# Altium schematic symbol library PKY_LIB.SchLib: 129 symbols
Pins are listed as number, name and electrical type; pins without a type are passive.

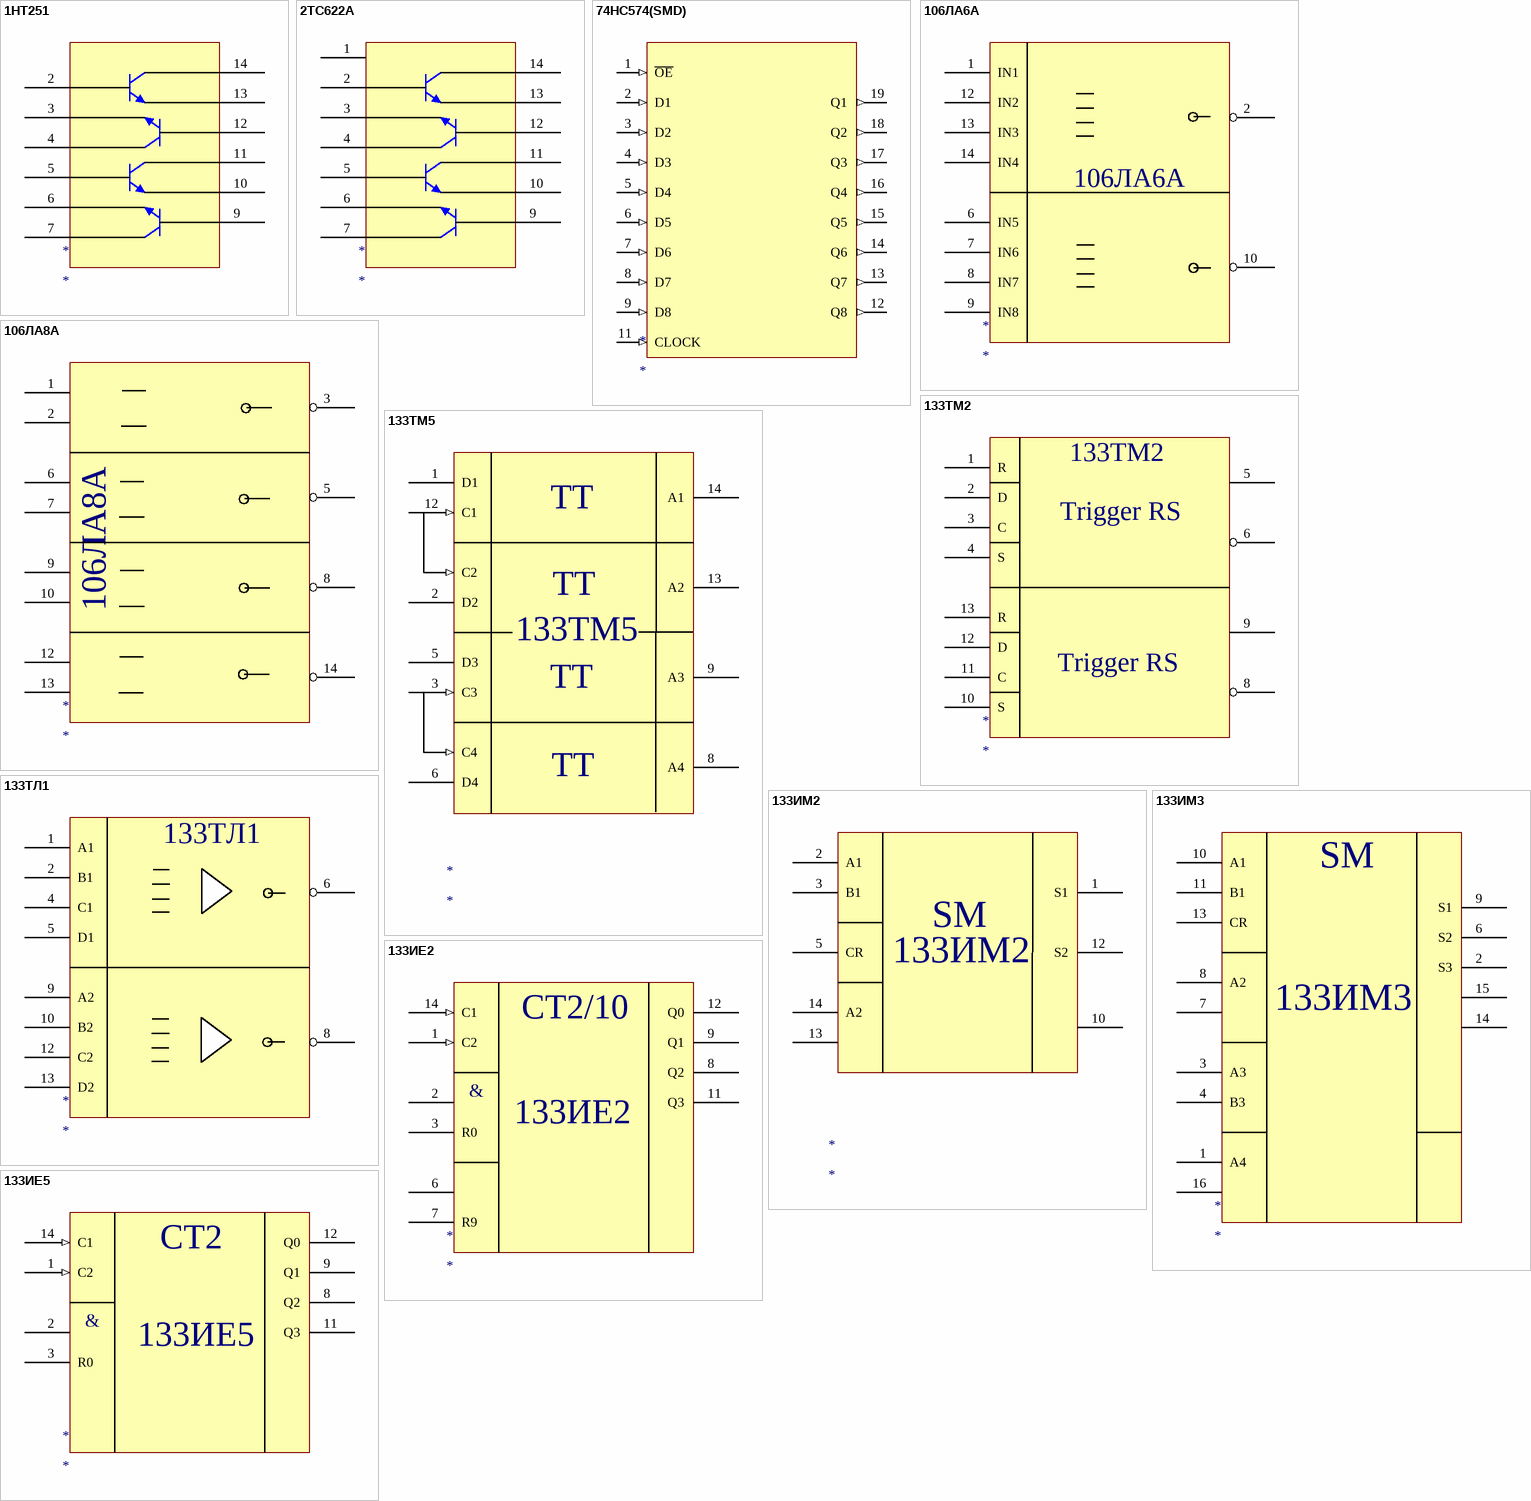
[diagram p0: symbols 1HT251 to 133ИЕ5]

## 1HT251
designator *
footprint SMC-14R
pins: 2, 3, 4, 5, 6, 7, 9, 10, 11, 12, 13, 14

## 2ТС622А
designator *
footprint SMC-14R
pins: 1, 2, 3, 4, 5, 6, 7, 9, 10, 11, 12, 13, 14

## 74HC574(SMD)
designator *
footprint SOP20N (SOP, 20-Leads, Body 12.30x7.50mm, Pitch 1.27mm, IPC Medium Density)
pins: 1 ~{OE} (in), 2 D1 (in), 3 D2 (in), 4 D3 (in), 5 D4 (in), 6 D5 (in), 7 D6 (in), 8 D7 (in), 9 D8 (in), 10 GND (power) hidden to GND, 11 CLOCK (in), 12 Q8 (out), 13 Q7 (out), 14 Q6 (out), 15 Q5 (out), 16 Q4 (out), 17 Q3 (out), 18 Q2 (out), 19 Q1 (out), 20 VCC (power) hidden to VCC

## 106ЛА6A
designator *
footprint SMC-14R
pins: 1 IN1, 2, 4 VCC (power) hidden to VCC, 6 IN5, 7 IN6, 8 IN7, 9 IN8, 10, 11 GND (power) hidden to GND, 12 IN2, 13 IN3, 14 IN4

## 106ЛА8A
designator *
footprint SMC-14R
pins: 1, 2, 3, 4 VCC (power) hidden to VCC, 5, 6, 7, 8, 9, 10, 11 GND (power) hidden to GND, 12, 13, 14

## 133TM2
designator *
footprint SMC-14R
pins: 1 R, 2 D, 3 C, 4 S, 5, 6, 7 GND (power) hidden to GND, 8, 9, 10 S, 11 C, 12 D, 13 R, 14 VCC (power) hidden to VCC
text: Trigger RS

## 133TM5
designator *
footprint SMC-14R
pins: 1 D1, 2 D2, 3 C3 (in), 4 VCC (power) hidden to VCC, 5 D3, 6 D4, 8 A4, 9 A3, 11 GND (power) hidden to GND, 12 C1 (in), 13 A2, 14 A1, ?1 C2 (in), ?2 C4 (in)
text: TT

## 133TЛ1
designator *
footprint SMC-14R
pins: 1 A1, 2 B1, 4 C1, 5 D1, 6, 8, 9 A2, 10 B2, 12 C2, 13 D2

## 133ИM2
designator *
footprint SMC-14R
pins: 1 S1, 2 A1, 3 B1, 4 VCC (power) hidden to VCC, 5 CR, 10 CRP, 11 GND (power) hidden to GND, 12 S2, 13 B2, 14 A2
text: SM

## 133ИM3
designator *
footprint SMC-16R
pins: 1 A4, 2 S3, 3 A3, 4 B3, 5 VCC (power) hidden to VCC, 6 S2, 7 B2, 8 A2, 9 S1, 10 A1, 11 B1, 12 GND (power) hidden to GND, 13 CR, 14 CRP, 15 S4, 16 B4
text: SM

## 133ИЕ2
designator *
footprint SMC-14R
pins: 1 C2 (in), 2  , 3 R0, 5 VCC (power) hidden to VCC, 6  , 7 R9, 8 Q2, 9 Q1, 10 GND (power) hidden to GND, 11 Q3, 12 Q0, 14 C1 (in)
text: CT2/10; &

## 133ИЕ5
designator *
footprint SMC-14R
pins: 1 C2 (in), 2  , 3 R0, 5 VCC (power) hidden to VCC, 8 Q2, 9 Q1, 10 GND (power) hidden to GND, 11 Q3, 12 Q0, 14 C1 (in)
text: CT2; &

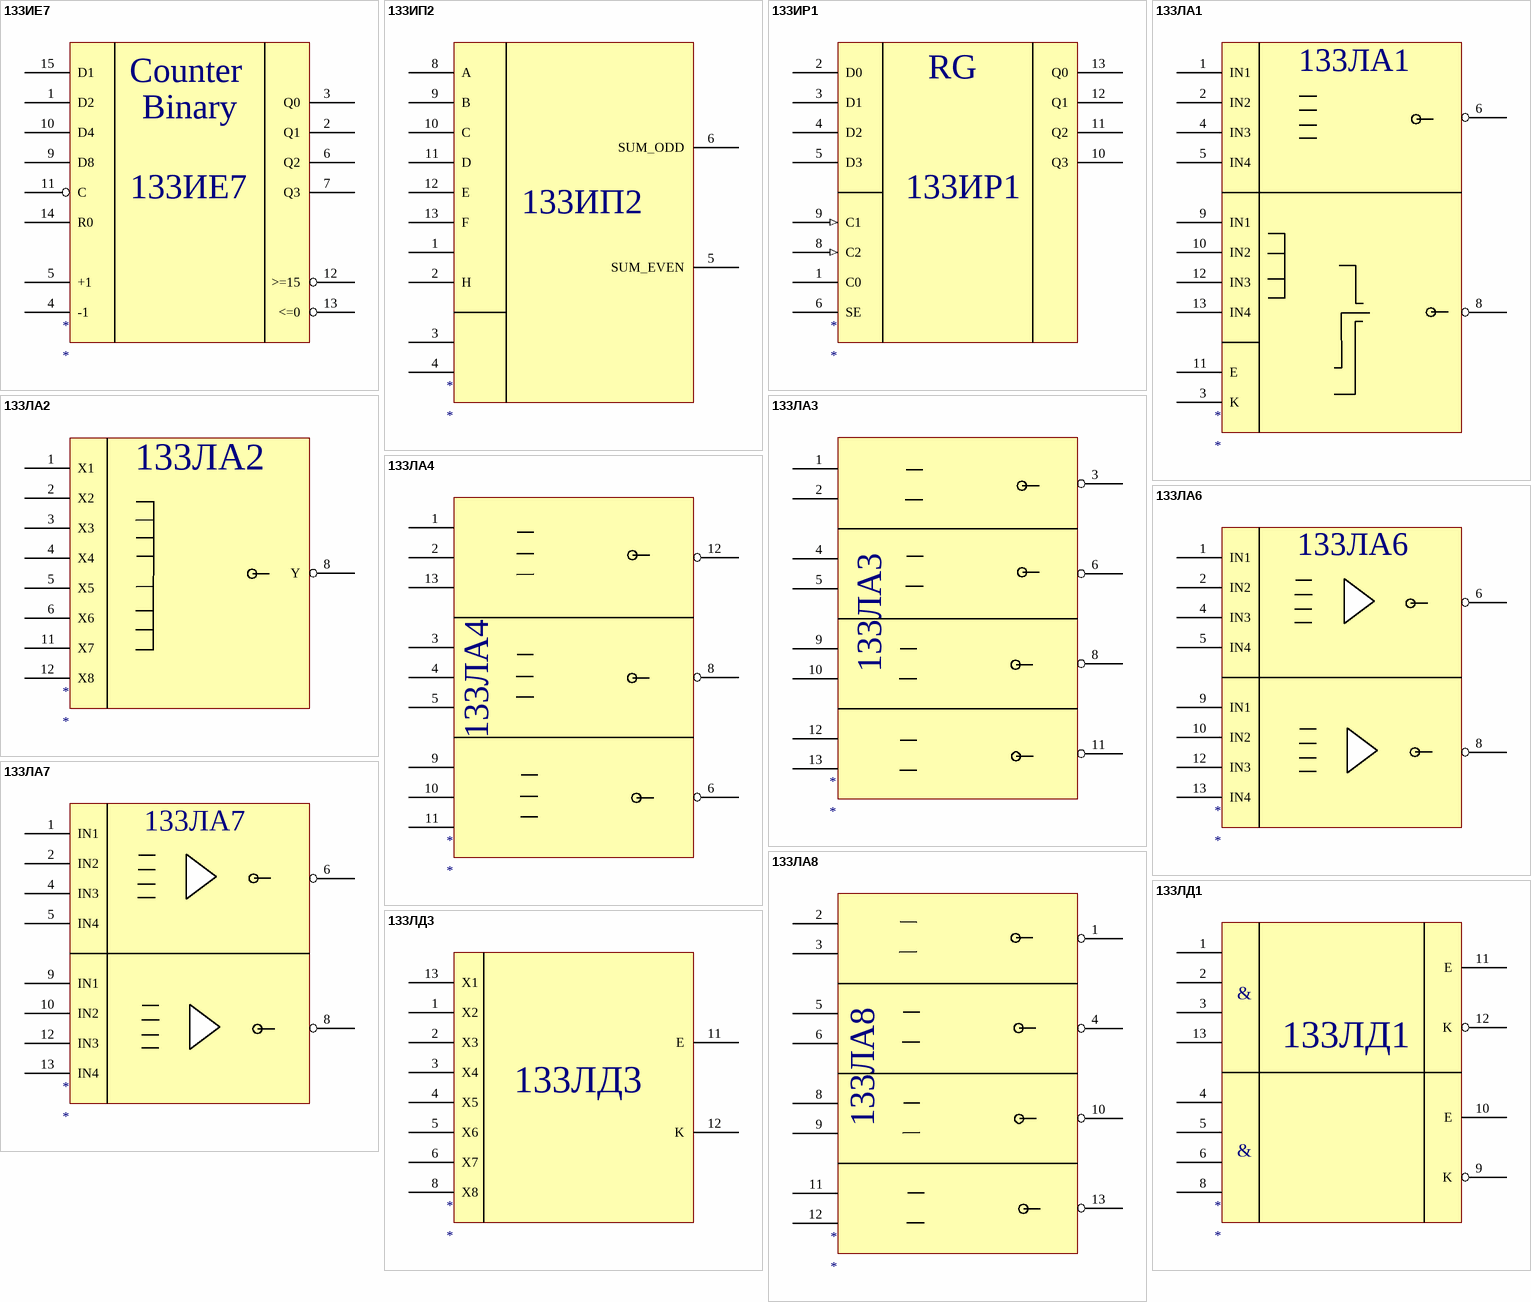
[diagram p1: symbols 133ИЕ7 to 133ЛД3]

## 133ИЕ7
designator *
footprint SMC-16R
pins: 1 D2, 2 Q1, 3 Q0, 4 -1, 5 +1, 6 Q2, 7 Q3, 8 GND (power) hidden to GND, 9 D8, 10 D4, 11 C, 12 >=15, 13 <=0, 14 R0, 15 D1, 16 VCC (power) hidden to VCC
text: Counter; Binary

## 133ИП2
designator *
footprint SMC-14R
pins: 1 G, 2 H (oc), 3 EVEN, 4 ODD, 5 SUM_EVEN, 6 SUM_ODD, 7 GND (power) hidden to GND, 8 A, 9 B, 10 C, 11 D, 12 E, 13 F, 14 VCC (power) hidden to VCC

## 133ИР1
designator *
footprint SMC-14R
pins: 1 C0, 2 D0, 3 D1, 4 D2, 5 D3, 6 SE, 7 GND (power) hidden to GND, 8 C2 (in), 9 C1 (in), 10 Q3, 11 Q2, 12 Q1, 13 Q0, 14 VCC (power) hidden to VCC
text: RG

## 133ЛA1
designator *
footprint SMC-14R
pins: 1 IN1, 2 IN2, 3 K, 4 IN3, 5 IN4, 6, 7 GND (power) hidden to GND, 8, 9 IN1, 10 IN2, 11 E, 12 IN3, 13 IN4, 14 VCC (power) hidden to VCC

## 133ЛA2
designator *
footprint SMC-14R
pins: 1 X1, 2 X2, 3 X3, 4 X4, 5 X5, 6 X6, 7 GND (power) hidden to GND, 8 Y, 11 X7, 12 X8, 14 VCC (power) hidden to VCC

## 133ЛA3
designator *
footprint SMC-14R
pins: 1, 2, 3, 4, 5, 6, 7 GND (power) hidden to GND, 8, 9, 10, 11, 12, 13, 14 VCC (power) hidden to VCC

## 133ЛA4
designator *
footprint SMC-14R
pins: 1 (oc), 2, 3, 4, 5, 6, 7 GND (power) hidden to GND, 8, 9, 10, 11, 12, 13, 14 VCC (power) hidden to VCC

## 133ЛA6
designator *
footprint SMC-14R
pins: 1 IN1, 2 IN2, 4 IN3, 5 IN4, 6, 7 GND (power) hidden to GND, 8, 9 IN1, 10 IN2, 12 IN3, 13 IN4, 14 VCC (power) hidden to VCC

## 133ЛA7
designator *
footprint SMC-14R
pins: 1 IN1, 2 IN2, 4 IN3, 5 IN4, 6, 7 GND (power) hidden to GND, 8, 9 IN1, 10 IN2, 12 IN3, 13 IN4, 14 VCC (power) hidden to VCC

## 133ЛA8
designator *
footprint SMC-14R
pins: 1, 2, 3, 4, 5, 6, 7 GND (power) hidden to GND, 8, 9, 10, 11, 12, 13, 14 VCC (power) hidden to VCC

## 133ЛД1
designator *
footprint SMC-14R
pins: 1  , 2  , 3  , 4  , 5  , 6  , 7 GND (power) hidden to GND, 8  , 9 K, 10 E, 11 E, 12 K, 13  , 14 VCC (power) hidden to VCC
text: &

## 133ЛД3
designator *
footprint SMC-14R
pins: 1 X2, 2 X3, 3 X4, 4 X5, 5 X6, 6 X7, 7 GND hidden to GND, 8 X8, 11 E, 12 K, 13 X1, 14 VCC hidden to VCC

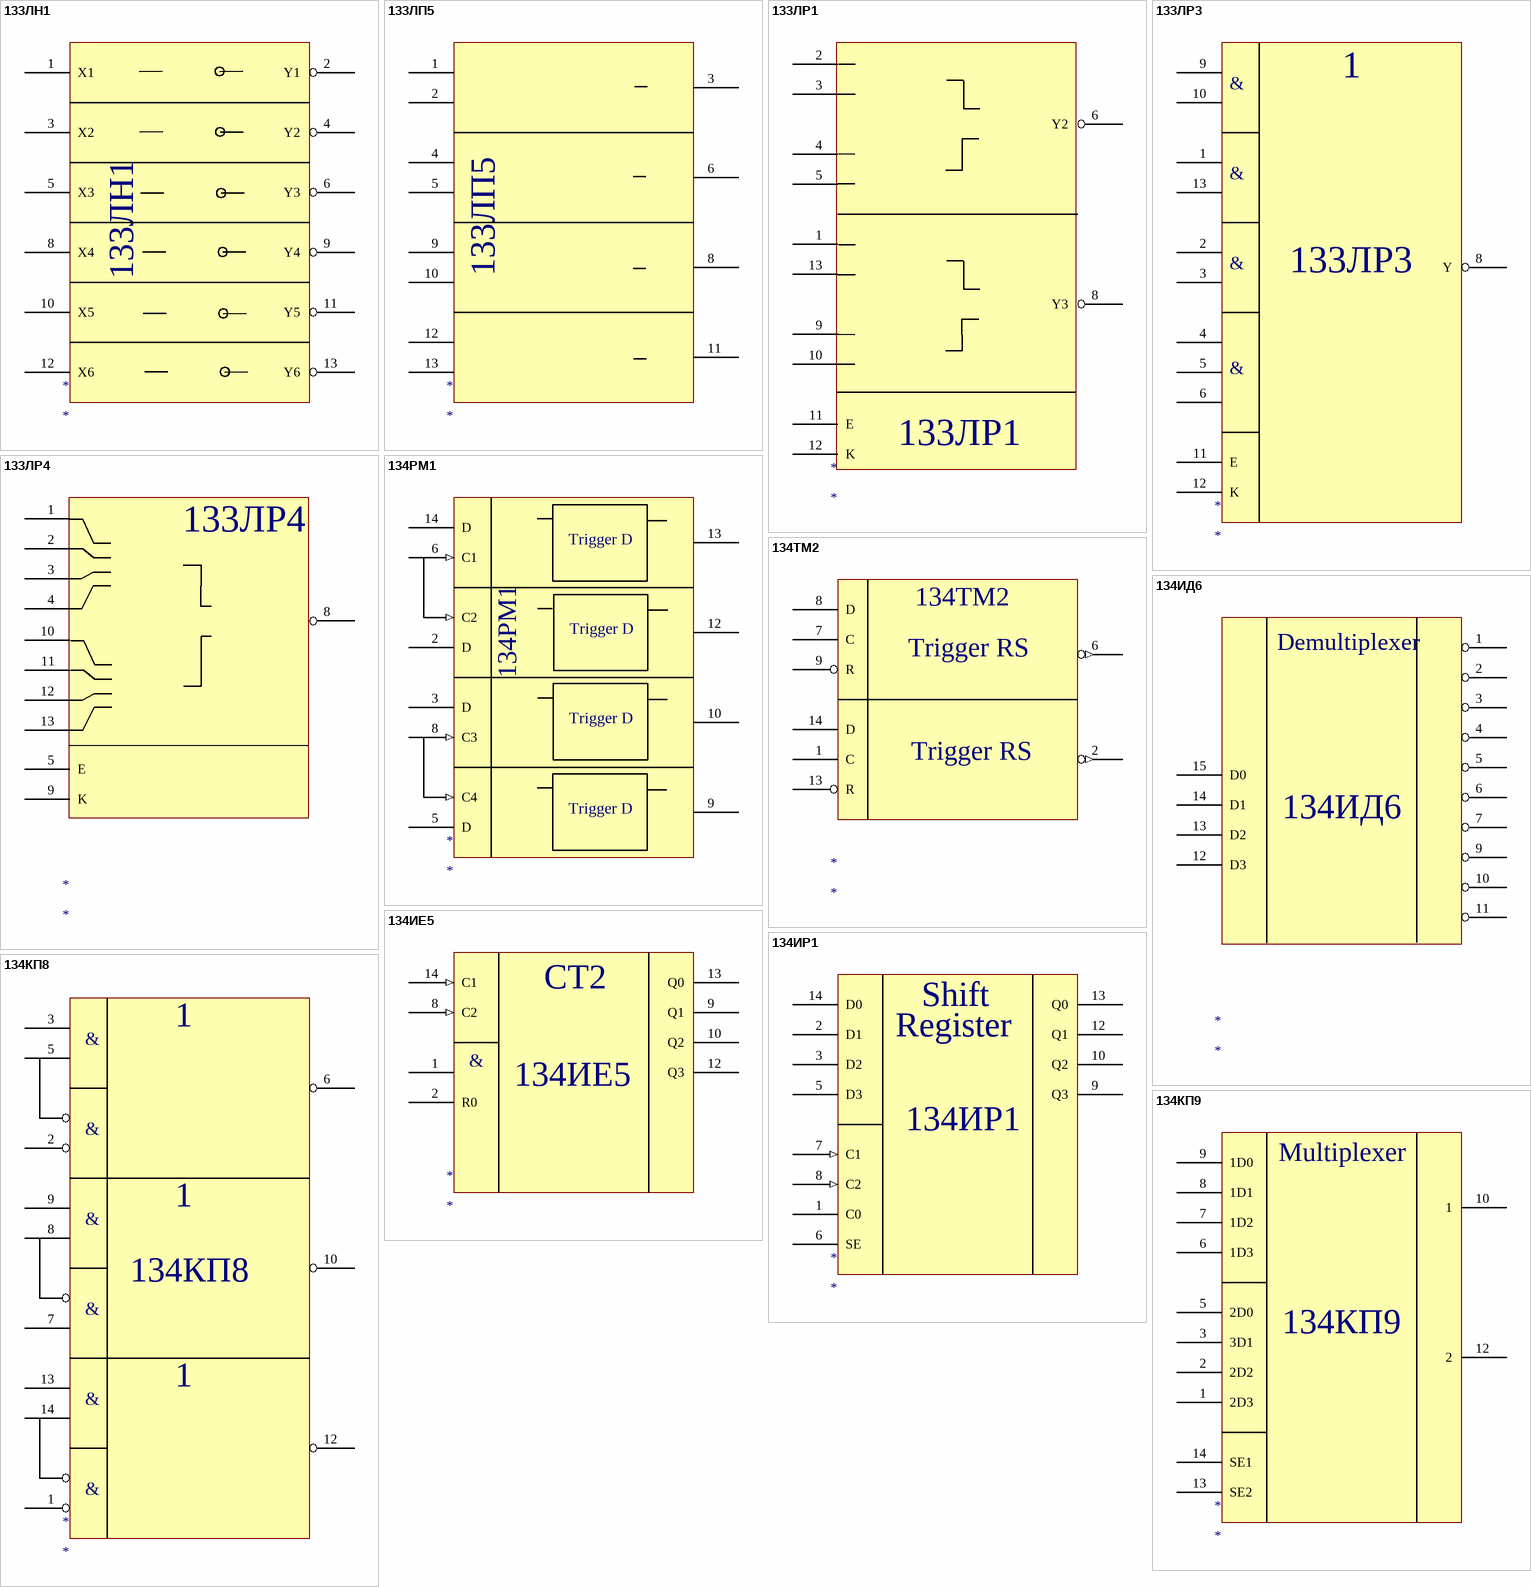
[diagram p2: symbols 133ЛН1 to 134КП9]

## 133ЛН1
designator *
footprint SMC-14R
pins: 1 X1, 2 Y1, 3 X2, 4 Y2, 5 X3, 6 Y3, 7 GND (power) hidden to GND, 8 X4, 9 Y4, 10 X5, 11 Y5, 12 X6, 13 Y6, 14 VCC hidden to VCC

## 133ЛП5
designator *
footprint SMC-14R
pins: 1, 2, 3, 4, 5, 6, 7 GND (power) hidden to GND, 8, 9, 10, 11, 12, 13, 14 VCC (power) hidden to VCC

## 133ЛР1
designator *
footprint SMC-14R
pins: 1, 2, 3, 4, 5, 6 Y2, 7 GND (power) hidden to GND, 8 Y3, 9, 10, 11 E, 12 K, 13, 14 VCC (power) hidden to VCC

## 133ЛР3
designator *
footprint SMC-14R
pins: 1  , 2  , 3  , 4  , 5  , 6  , 7 GND (power) hidden to GND, 8 Y, 9  , 10  , 11 E, 12 K, 13  , 14 VCC (power) hidden to VCC
text: &

## 133ЛР4
designator *
footprint SMC-14R
pins: 1  , 2  , 3  , 4  , 5 E, 7 GND (power) hidden to GND, 8, 9 K, 10  , 11  , 12  , 13  , 14 VCC (power) hidden to VCC

## 134PM1
designator *
footprint SMC-14R
pins: 2 D, 3 D, 4 VCC (power) hidden to VCC, 5 D, 6 C1 (in), 8 C3 (in), 9, 10, 11 GND (power) hidden to GND, 12, 13, 14 D, ?1 C2 (in), ?2 C4 (in)
text: Trigger D

## 134TM2
designator *
footprint SMC-14R
pins: 1 C, 2 (out), 6 (out), 7 C, 8 D, 9 R, 13 R, 14 D
text: Trigger RS

## 134ИД6
designator *
footprint SMC-16R
pins: 1 Q0, 2 Q1, 3 Q2, 4 Q3, 5 Q4, 6 Q5, 7 Q6, 8 GND hidden to GND, 9 Q7, 10 Q8, 11 Q9, 12 D3, 13 D2, 14 D1, 15 D0, 16 VCC (power) hidden to VCC
text: Demultiplexer

## 134ИЕ5
designator *
footprint SMC-14R
pins: 1, 2 R0, 4 VCC (power) hidden to VCC, 8 C2 (in), 9 Q1, 10 Q2, 11 GND (power) hidden to GND, 12 Q3, 13 Q0, 14 C1 (in)
text: CT2; &

## 134ИР1
designator *
footprint SMC-14R
pins: 1 C0, 2 D1, 3 D2, 4 VCC (power) hidden to VCC, 5 D3, 6 SE, 7 C1 (in), 8 C2 (in), 9 Q3, 10 Q2, 11 GND (power) hidden to GND, 12 Q1, 13 Q0, 14 D0
text: Shift; Register

## 134КП8
designator *
footprint SMC-14R
pins: 1  , 2  , 3, 4 VCC (power) hidden to VCC, 5, 6, 7  , 8  , 9  , 10, 11 GND (power) hidden to GND, 12, 13  , 14  , ?1, ?2  , ?3  
text: &

## 134КП9
designator *
footprint SMC-14R
pins: 1 2D3, 2 2D2, 3 3D1, 4 VCC (power) hidden to VCC, 5 2D0, 6 1D3, 7 1D2, 8 1D1, 9 1D0, 10 1, 11 GND (power) hidden to GND, 12 2, 13 SE2, 14 SE1
text: Multiplexer

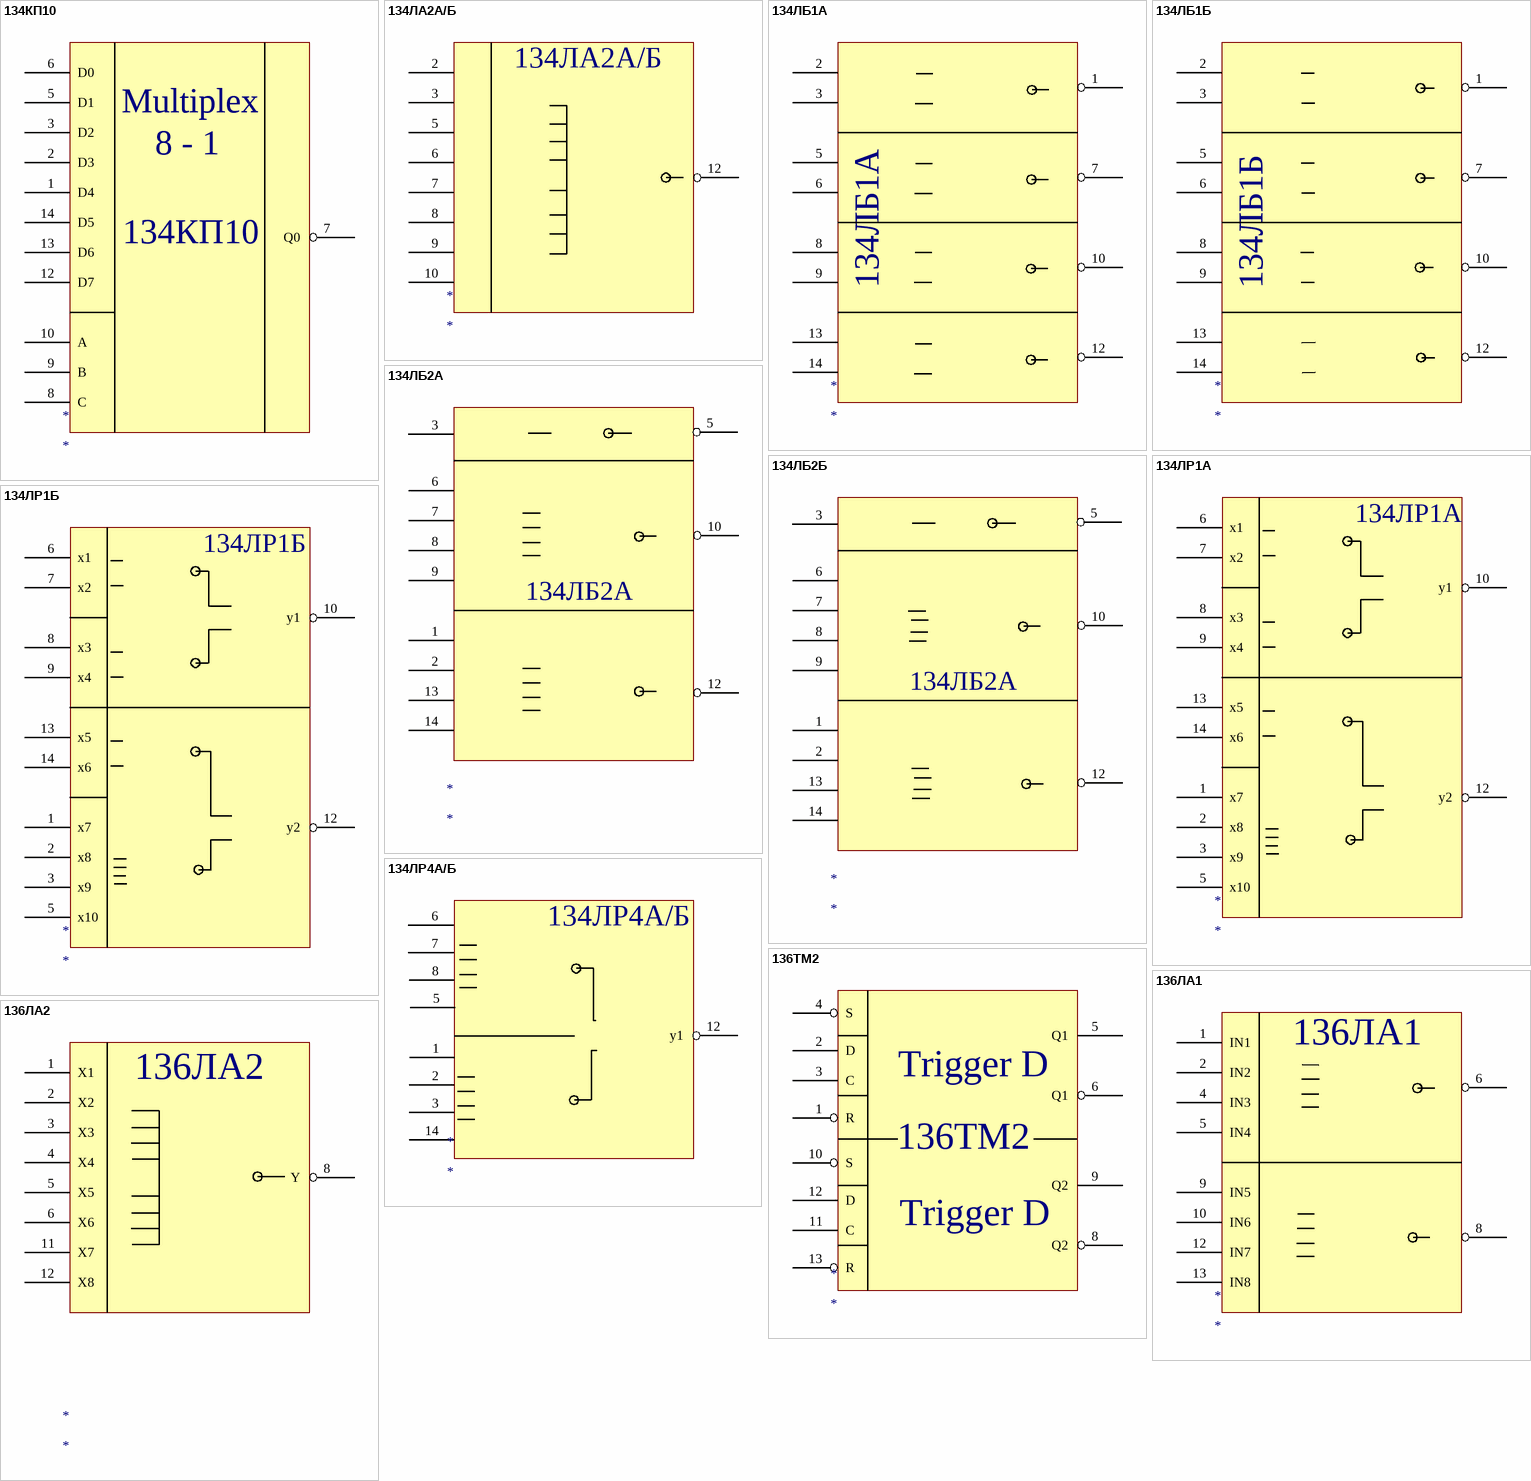
[diagram p3: symbols 134КП10 to 136ЛА2]

## 134КП10
designator *
footprint SMC-14R
pins: 1 D4, 2 D3, 3 D2, 4 VCC (power) hidden to VCC, 5 D1, 6 D0, 7 Q0, 8 C, 9 B, 10 A, 11 GND (power) hidden to GND, 12 D7, 13 D6, 14 D5
text: Multiplex; 8 - 1

## 134ЛА2А/Б
designator *
footprint SMC-14R
pins: 2  , 3  , 4 VCC (power) hidden to VCC, 5  , 6  , 7  , 8  , 9  , 10  , 11 GND (power) hidden to GND, 12  

## 134ЛБ1А
designator *
footprint SMC-14R
pins: 1, 2, 3, 4 VCC (power) hidden to VCC, 5, 6, 7, 8, 9, 10, 11 GND (power) hidden to GND, 12, 13, 14

## 134ЛБ1Б
designator *
footprint SMC-14R
pins: 1, 2, 3, 4 VCC (power) hidden to VCC, 5, 6, 7, 8, 9, 10, 11 GND (power) hidden to GND, 12, 13, 14

## 134ЛБ2А
designator *
footprint SMC-14R
pins: 1, 2, 3, 4 VCC (power) hidden to VCC, 5, 6, 7, 8, 9, 10, 11 GND (power) hidden to GND, 12, 13, 14

## 134ЛБ2Б
designator *
footprint SMC-14R
pins: 1, 2, 3, 4 VCC (power) hidden to VCC, 5, 6, 7, 8, 9, 10, 11 GND (power) hidden to GND, 12, 13, 14
text: 134ЛБ2А

## 134ЛР1A
designator *
footprint SMC-14R
pins: 1 x7, 2 x8, 3 x9, 4 VCC (power) hidden to VCC, 5 x10, 6 x1, 7 x2, 8 x3, 9 x4, 10 y1, 11 GND (power) hidden to GND, 12 y2, 13 x5, 14 x6

## 134ЛР1Б
designator *
footprint SMC-14R
pins: 1 x7, 2 x8, 3 x9, 4 VCC (power) hidden to VCC, 5 x10, 6 x1, 7 x2, 8 x3, 9 x4, 10 y1, 11 GND (power) hidden to GND, 12 y2, 13 x5, 14 x6

## 134ЛР4A/Б
designator *
footprint SMC-14R
pins: 1  , 2  , 3  , 4 VCC (power) hidden to VCC, 5  , 6  , 7  , 8  , 11 GND (power) hidden to GND, 12 y1, 14  

## 136TM2
designator *
footprint SMC-14R
pins: 1 R, 2 D, 3 C, 4 S, 5 Q1, 6 Q1, 7 GND (power) hidden to GND, 8 Q2, 9 Q2, 10 S, 11 C, 12 D, 13 R, 14 VCC hidden to VCC
text: Trigger D

## 136ЛА1
designator *
footprint SMC-14R
pins: 1 IN1, 2 IN2, 4 IN3, 5 IN4, 6, 7 GND (power) hidden to GND, 8, 9 IN5, 10 IN6, 12 IN7, 13 IN8, 14 VCC (power) hidden to VCC

## 136ЛА2
designator *
footprint SMC-14R
pins: 1 X1, 2 X2, 3 X3, 4 X4, 5 X5, 6 X6, 7 GND (power) hidden to GND, 8 Y, 11 X7, 12 X8, 14 VCC hidden to VCC

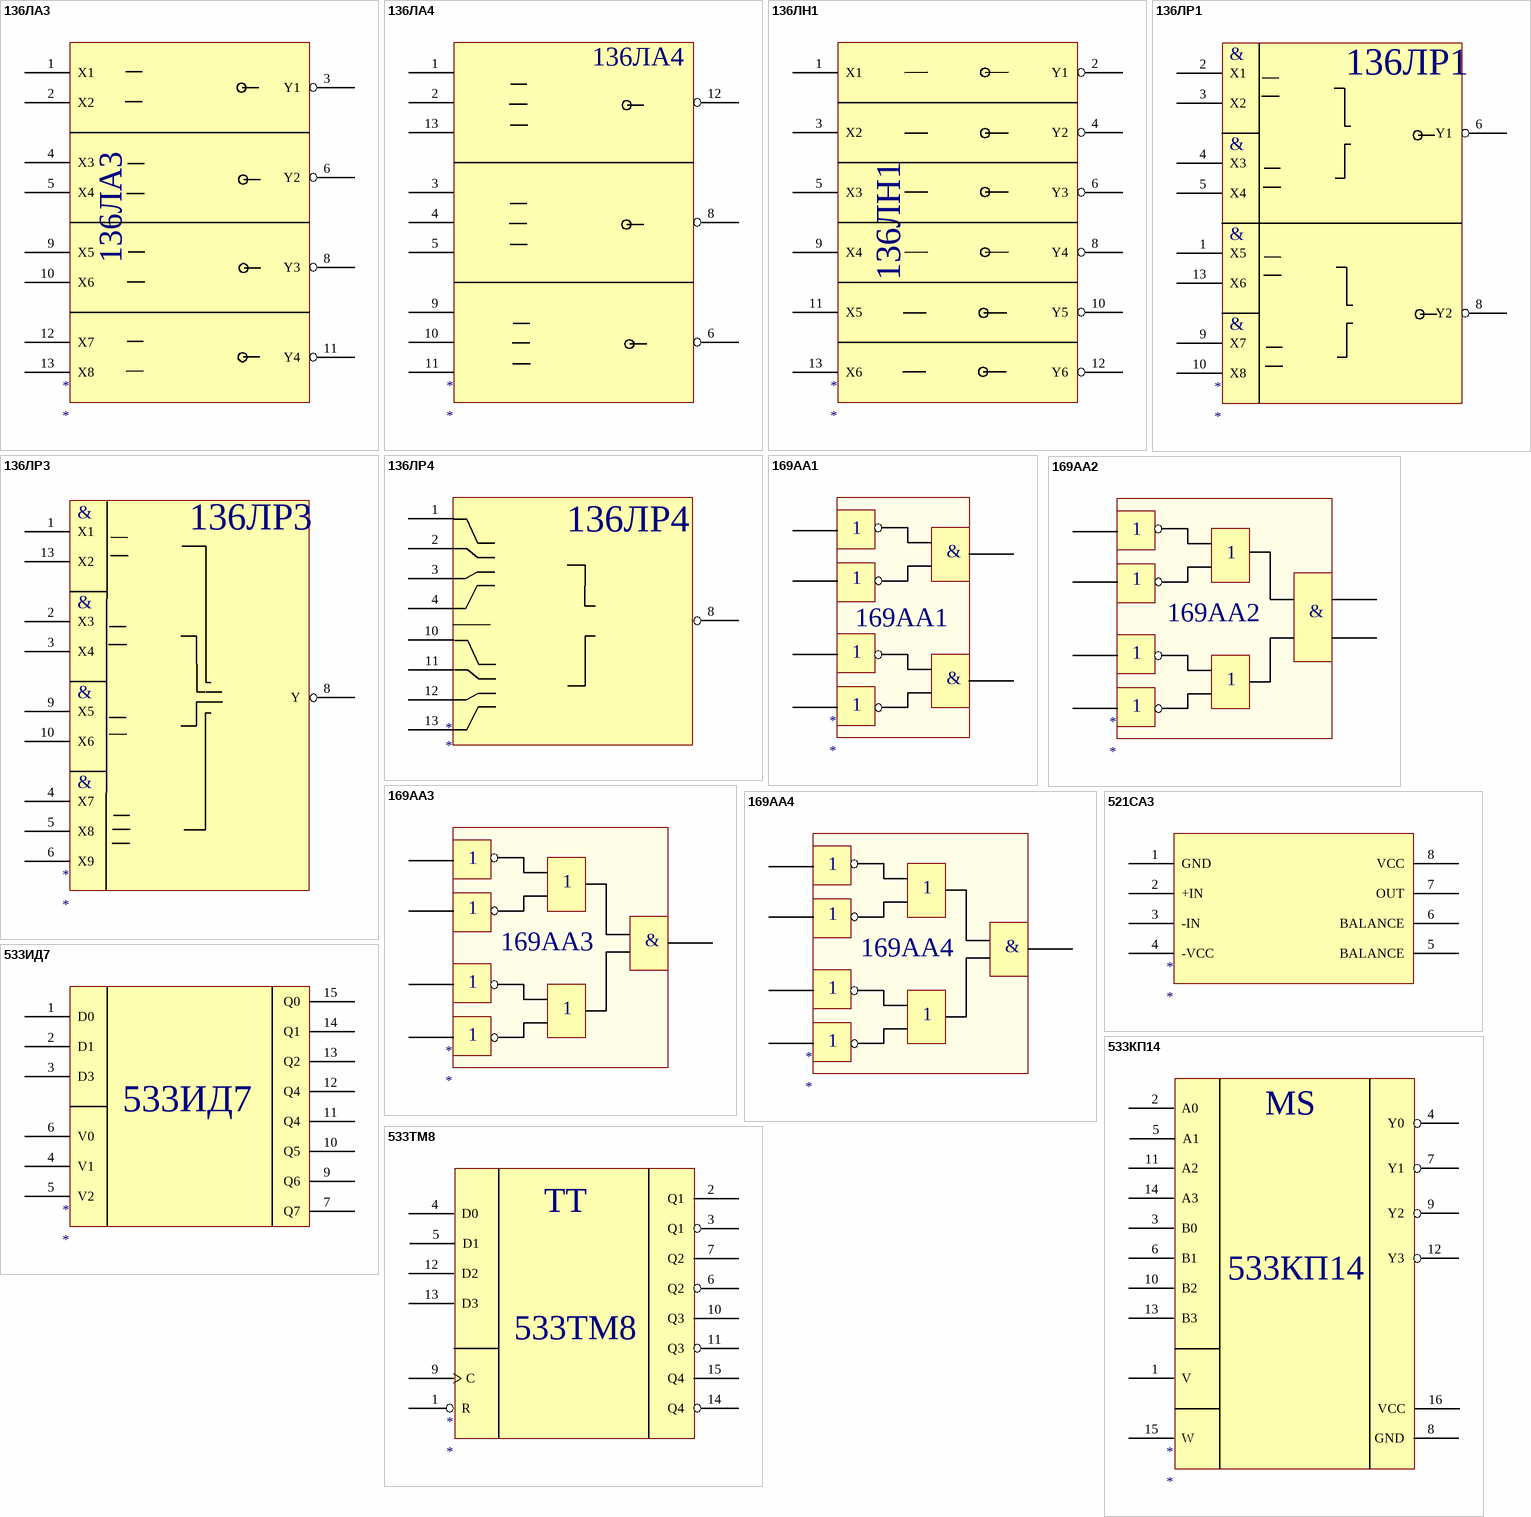
[diagram p4: symbols 136ЛА3 to 533ТМ8]

## 136ЛА3
designator *
footprint SMC-14R
pins: 1 X1, 2 X2, 3 Y1 (oc), 4 X3, 5 X4, 6 Y2, 7 GND (power) hidden to GND, 8 Y3, 9 X5, 10 X6, 11 Y4, 12 X7, 13 X8, 14 VCC (power) hidden to VCC

## 136ЛА4
designator *
footprint SMC-14R
pins: 1 (oc), 2, 3, 4, 5, 6, 7 GND (power) hidden to GND, 8, 9, 10, 11, 12, 13, 14 VCC (power) hidden to VCC

## 136ЛН1
designator *
footprint SMC-14R
pins: 1 X1, 2 Y1 (oc), 3 X2, 4 Y2, 5 X3, 6 Y3, 7 GND (power) hidden to GND, 8 Y4, 9 X4, 10 Y5, 11 X5, 12 Y6, 13 X6, 14 VCC (power) hidden to VCC

## 136ЛР1
designator *
footprint SMC-14R
pins: 1 X5, 2 X1, 3 X2, 4 X3, 5 X4, 6 Y1, 7 GND (power) hidden to GND, 8 Y2, 9 X7, 10 X8, 13 X6, 14 VCC (power) hidden to VCC
text: &

## 136ЛР3
designator *
footprint SMC-14R
pins: 1 X1, 2 X3, 3 X4, 4 X7, 5 X8, 6 X9, 7 GND (power) hidden to GND, 8 Y, 9 X5, 10 X6, 13 X2, 14 VCC (power) hidden to VCC
text: &

## 136ЛР4
designator *
footprint SMC-14R
pins: 1  , 2  , 3  , 4  , 7 GND (power) hidden to GND, 8, 10  , 11  , 12  , 13  , 14 VCC (power) hidden to VCC

## 169AA1
designator *
pins: 3, 4, 5, 6, 10, 15, ?1, ?2, ?3, ?4
text: 1; &

## 169AA2
designator *
pins: 3, 4, 5, 6, 10, 15, ?1, ?2, ?3, ?4
text: 1; &

## 169AA3
designator *
pins: 3, 4, 5, 6, 10, ?1, ?2, ?3, ?4
text: 1; &

## 169AA4
designator *
pins: 3, 4, 5, 6, 10, ?1, ?2, ?3, ?4
text: 1; &

## 521СА3
designator *
pins: 1 GND, 2 +IN, 3 -IN, 4 -VCC, 5 BALANCE, 6 BALANCE, 7 OUT, 8 VCC

## 533ИД7
designator *
pins: 1 D0, 2 D1, 3 D3, 4 V1, 5 V2, 6 V0, 7 Q7, 9 Q6, 10 Q5, 11 Q4, 12 Q4, 13 Q2, 14 Q1, 15 Q0

## 533КП14
designator *
pins: 1 V, 2 A0, 3 B0, 4 Y0, 5 A1, 6 B1, 7 Y1, 8 GND, 9 Y2, 10 B2, 11 A2, 12 Y3, 13 B3, 14 A3, 15 W, 16 VCC
text: MS

## 533ТМ8
designator *
pins: 1 R, 2 Q1, 3 Q1, 4 D0, 5 D1, 6 Q2, 7 Q2, 9 C, 10 Q3, 11 Q3, 12 D2, 13 D3, 14 Q4, 15 Q4
text: TT

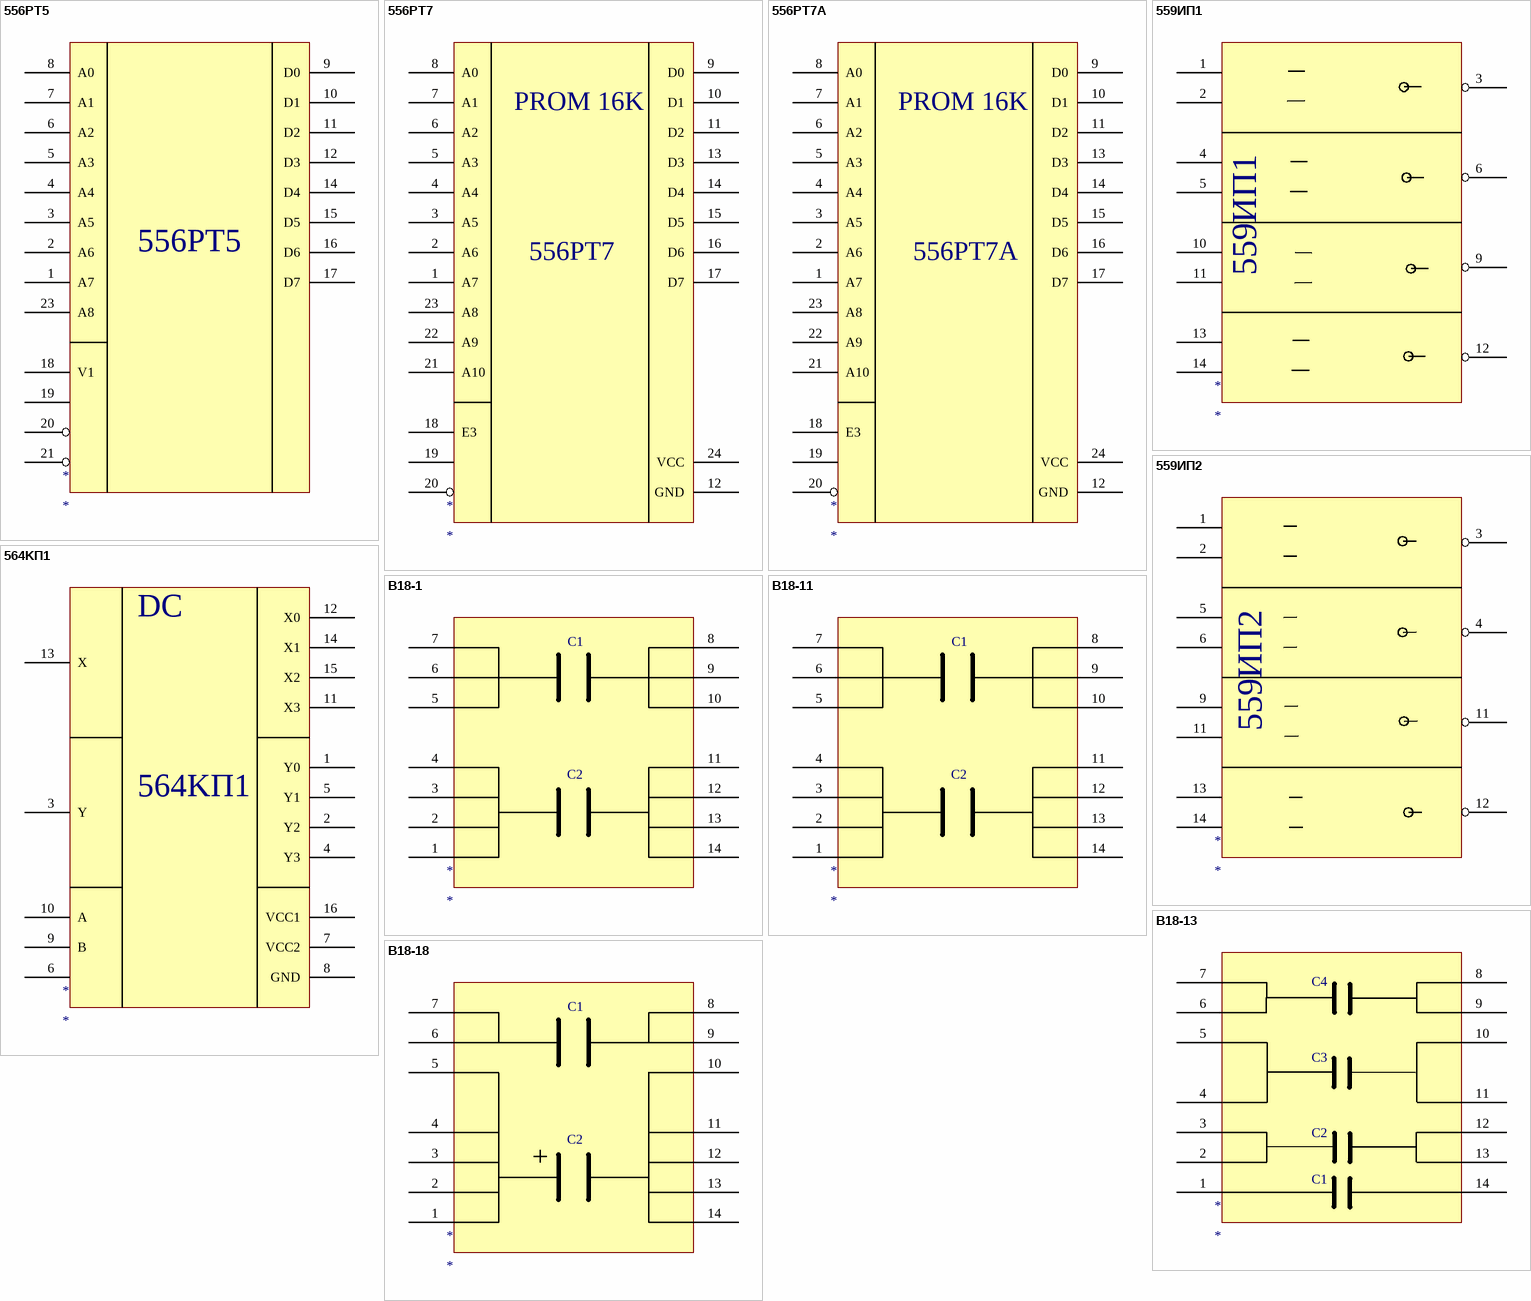
[diagram p5: symbols 556PT5 to B18-18]

## 556PT5
designator *
footprint SMC-24R (SOP, 24-Leads, Body 18.50x11.50mm, Pitch 1.25mm, IPC Medium Density)
pins: 1 A7, 2 A6, 3 A5, 4 A4, 5 A3, 6 A2, 7 A1, 8 A0, 9 D0, 10 D1, 11 D2, 12 D3, 12 GND (power) hidden to GND, 14 D4, 15 D5, 16 D6, 17 D7, 18 V1, 19 V2, 20 V3, 21 V4, 23 A8, 24 VCC (power) hidden to VCC

## 556PT7
designator *
pins: 1 A7, 2 A6, 3 A5, 4 A4, 5 A3, 6 A2, 7 A1, 8 A0, 9 D0, 10 D1, 11 D2, 12 GND, 13 D3, 14 D4, 15 D5, 16 D6, 17 D7, 18 E3, 19 E2, 20 E1, 21 A10, 22 A9, 23 A8, 24 VCC
text: PROM 16K

## 556PT7A
designator *
pins: 1 A7, 2 A6, 3 A5, 4 A4, 5 A3, 6 A2, 7 A1, 8 A0, 9 D0, 10 D1, 11 D2, 12 GND, 13 D3, 14 D4, 15 D5, 16 D6, 17 D7, 18 E3, 19 E2, 20 E1, 21 A10, 22 A9, 23 A8, 24 VCC
text: PROM 16K

## 559ИП1
designator *
footprint SMC-16R
pins: 1, 2, 3, 4, 5, 6, 8 GND (power) hidden to GND, 9, 10, 11, 12, 13, 14, 16 VCC (power) hidden to VCC

## 559ИП2
designator *
footprint SMC-16R
pins: 1, 2, 3, 4, 5, 6, 8 GND (power) hidden to GND, 9, 11, 11, 12, 13, 14, 16 VCC (power) hidden to VCC

## 564KП1
designator *
footprint SMC-16R
pins: 1 Y0, 2 Y2, 3 Y, 4 Y3, 5 Y1, 6 C, 7 VCC2, 8 GND, 9 B, 10 A, 11 X3, 12 X0, 13 X, 14 X1, 15 X2, 16 VCC1
text: DC

## B18-1
designator *
footprint SMC-14R (TU-4X0805)
pins: 1, 2, 3, 4, 5, 6, 7, 8, 9, 10, 11, 12, 13, 14
text: C1; C2

## B18-11
designator *
footprint SMC-14R (TU-4X0805)
pins: 1, 2, 3, 4, 5, 6, 7, 8, 9, 10, 11, 12, 13, 14
text: C1; C2

## B18-13
designator *
footprint SMC-14R
pins: 1, 2, 3, 4, 5, 6, 7, 8, 9, 10, 11, 12, 13, 14
text: C4; C3; C2; C1

## B18-18
designator *
footprint SMC-14R
pins: 1, 2, 3, 4, 5, 6, 7, 8, 9, 10, 11, 12, 13, 14
text: C1; C2

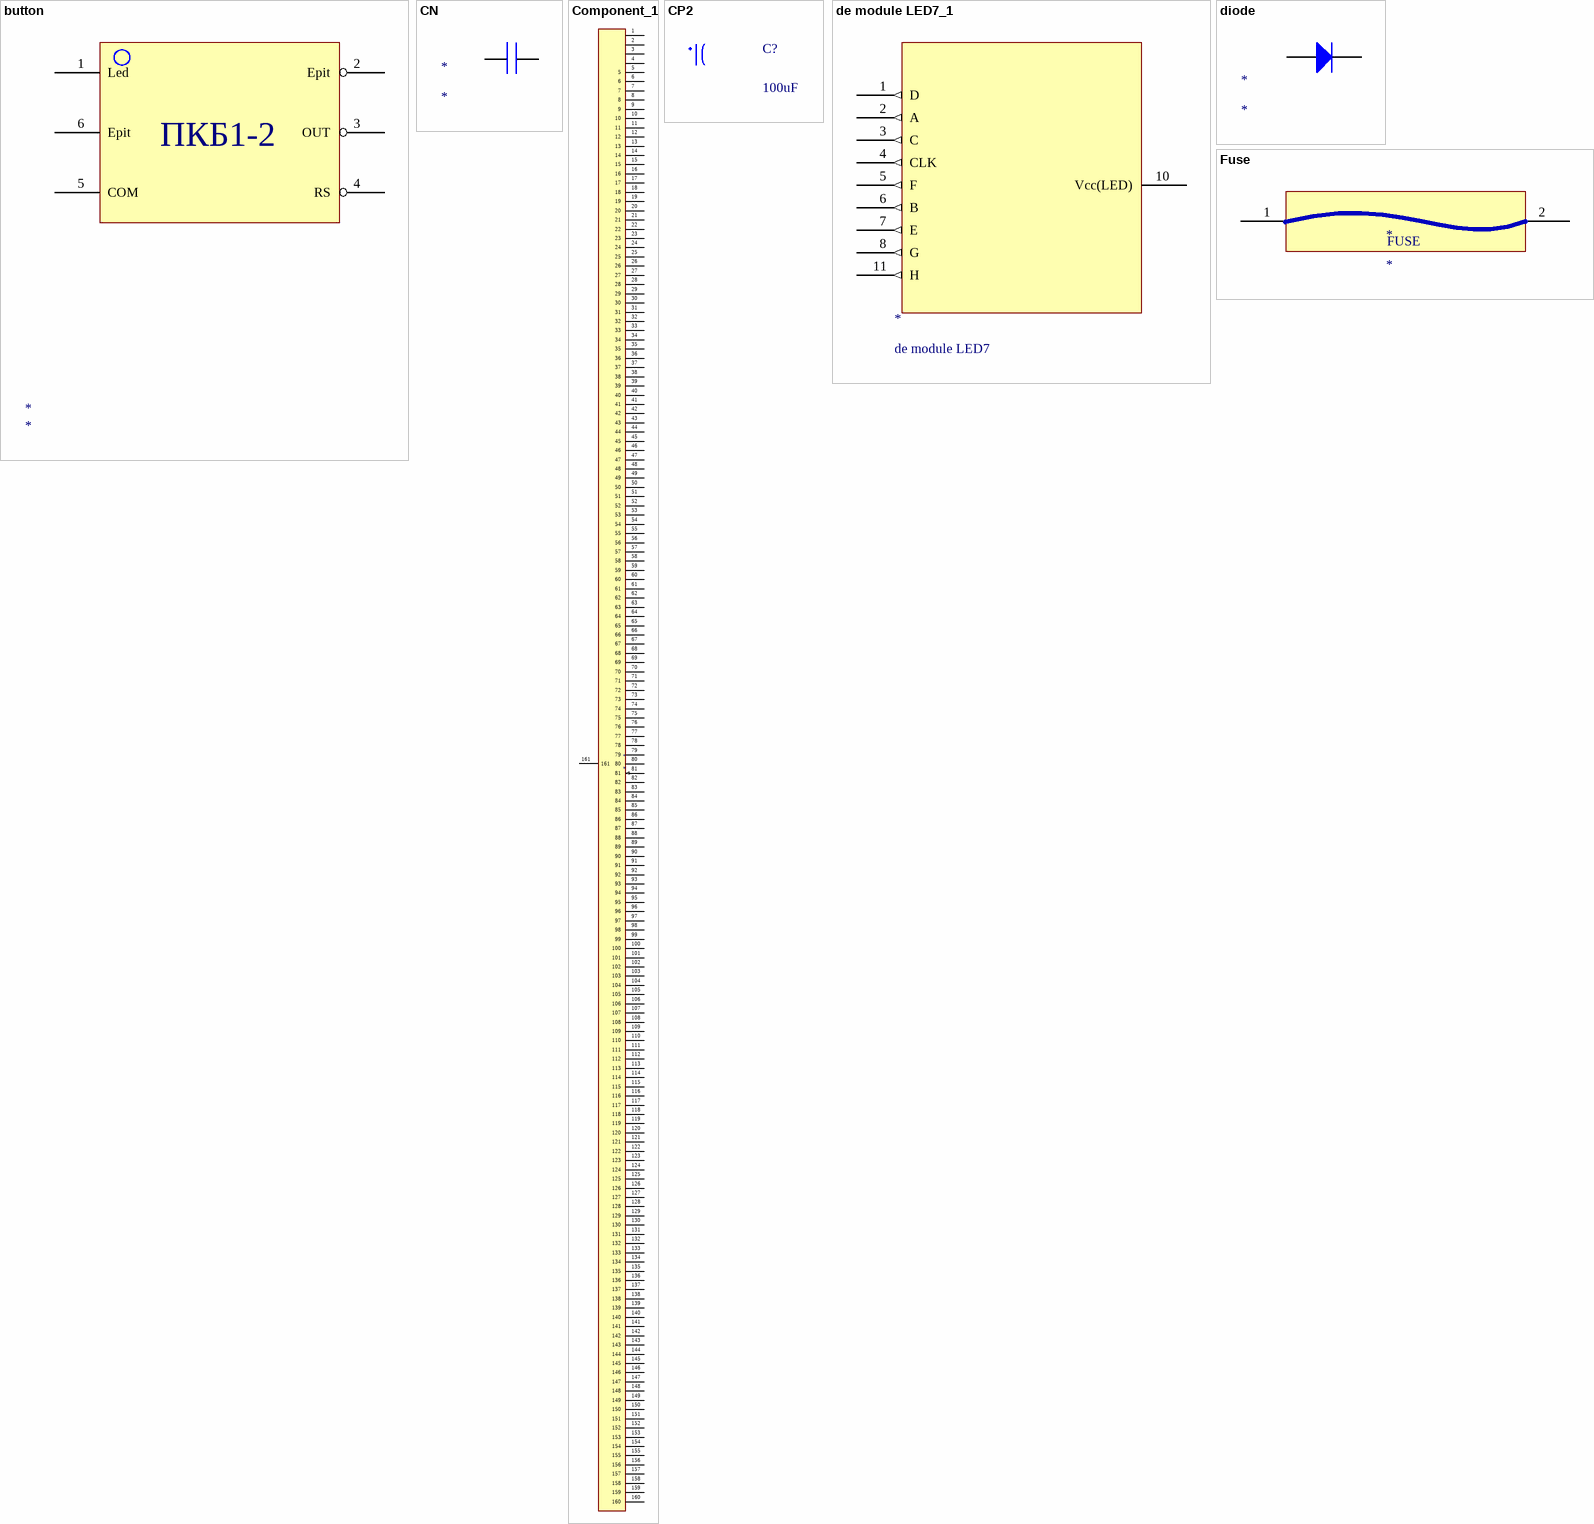
[diagram p6: symbols button to Fuse]

## button
designator *
pins: 1 Led, 2 Epit (oc), 3 OUT, 4 RS, 5 COM, 6 Epit
text: ПКБ1-2

## CN
designator *
pins: 1, 2

## Component_1
designator *
pins: 1  , 2  , 3  , 4  , 5, 6, 7, 8, 9, 10, 11, 12, 13, 14, 15, 16, 17, 18, 19, 20, 21, 22, 23, 24, 25, 26, 27, 28, 29, 30, 31, 32, 33, 34, 35, 36, 37, 38, 39, 40, 41, 42, 43, 44, 45, 46, 47, 48, 49, 50, 51, 52, 53, 54, 55, 56, 57, 58, 59, 60, 61, 62, 63, 64, 65, 66, 67, 68, 69, 70, 71, 72, 73, 74, 75, 76, 77, 78, 79, 80, 81 (in), 82, 83, 84, 85, 86, 87, 88, 89, 90, 91, 92, 93, 94, 95, 96, 97, 98, 99, 100, 101, 102, 103, 104, 105, 106, 107, 108, 109, 110, 111, 112, 113, 114, 115, 116, 117, 118, 119, 120, 121, 122, 123, 124, 125, 126, 127, 128, 129, 130, 131, 132, 133, 134, 135, 136, 137, 138, 139, 140, 141, 142, 143, 144, 145, 146, 147, 148, 149, 150, 151, 152, 153, 154, 155, 156, 157, 158, 159, 160, 161

## CP2
designator C?, comment 100uF
C 47uF/50V , 220uF/16V; Value: 47uF/16 - 50V; Description 1: 470uF/6,3V - 330uF/10V - 220uF/16V; Description 2: 100uF/25V - 35V - 47uF/50V - 22uF/100V; Description 3: 33uF => 47uF/63V - 1uF => 4,7uF/160V; Description 4: 1uF => 2,2uF/250V - 1uF/350V
footprint CP1/2.5 (Tu hoa 33 >100 uF,50V, 220uF/16V,25V)
pins: ?1 (power) hidden to VCC, ?2 (power) hidden to GND "GND"

## de module LED7_1
designator *, comment de module LED7
footprint de module Led7 - duplicate
pins: 1 D (out), 2 A (out), 3 C (out), 4 CLK (out), 5 F (out), 6 B (out), 7 E (out), 8 G (out), 9 VCC (power) hidden to VCC, 10 Vcc(LED) (power), 11 H (out), 12 GND (power) hidden to GND

## diode
designator *
pins: 1, 2

## Fuse
designator *
pins: 1, 2
text: FUSE

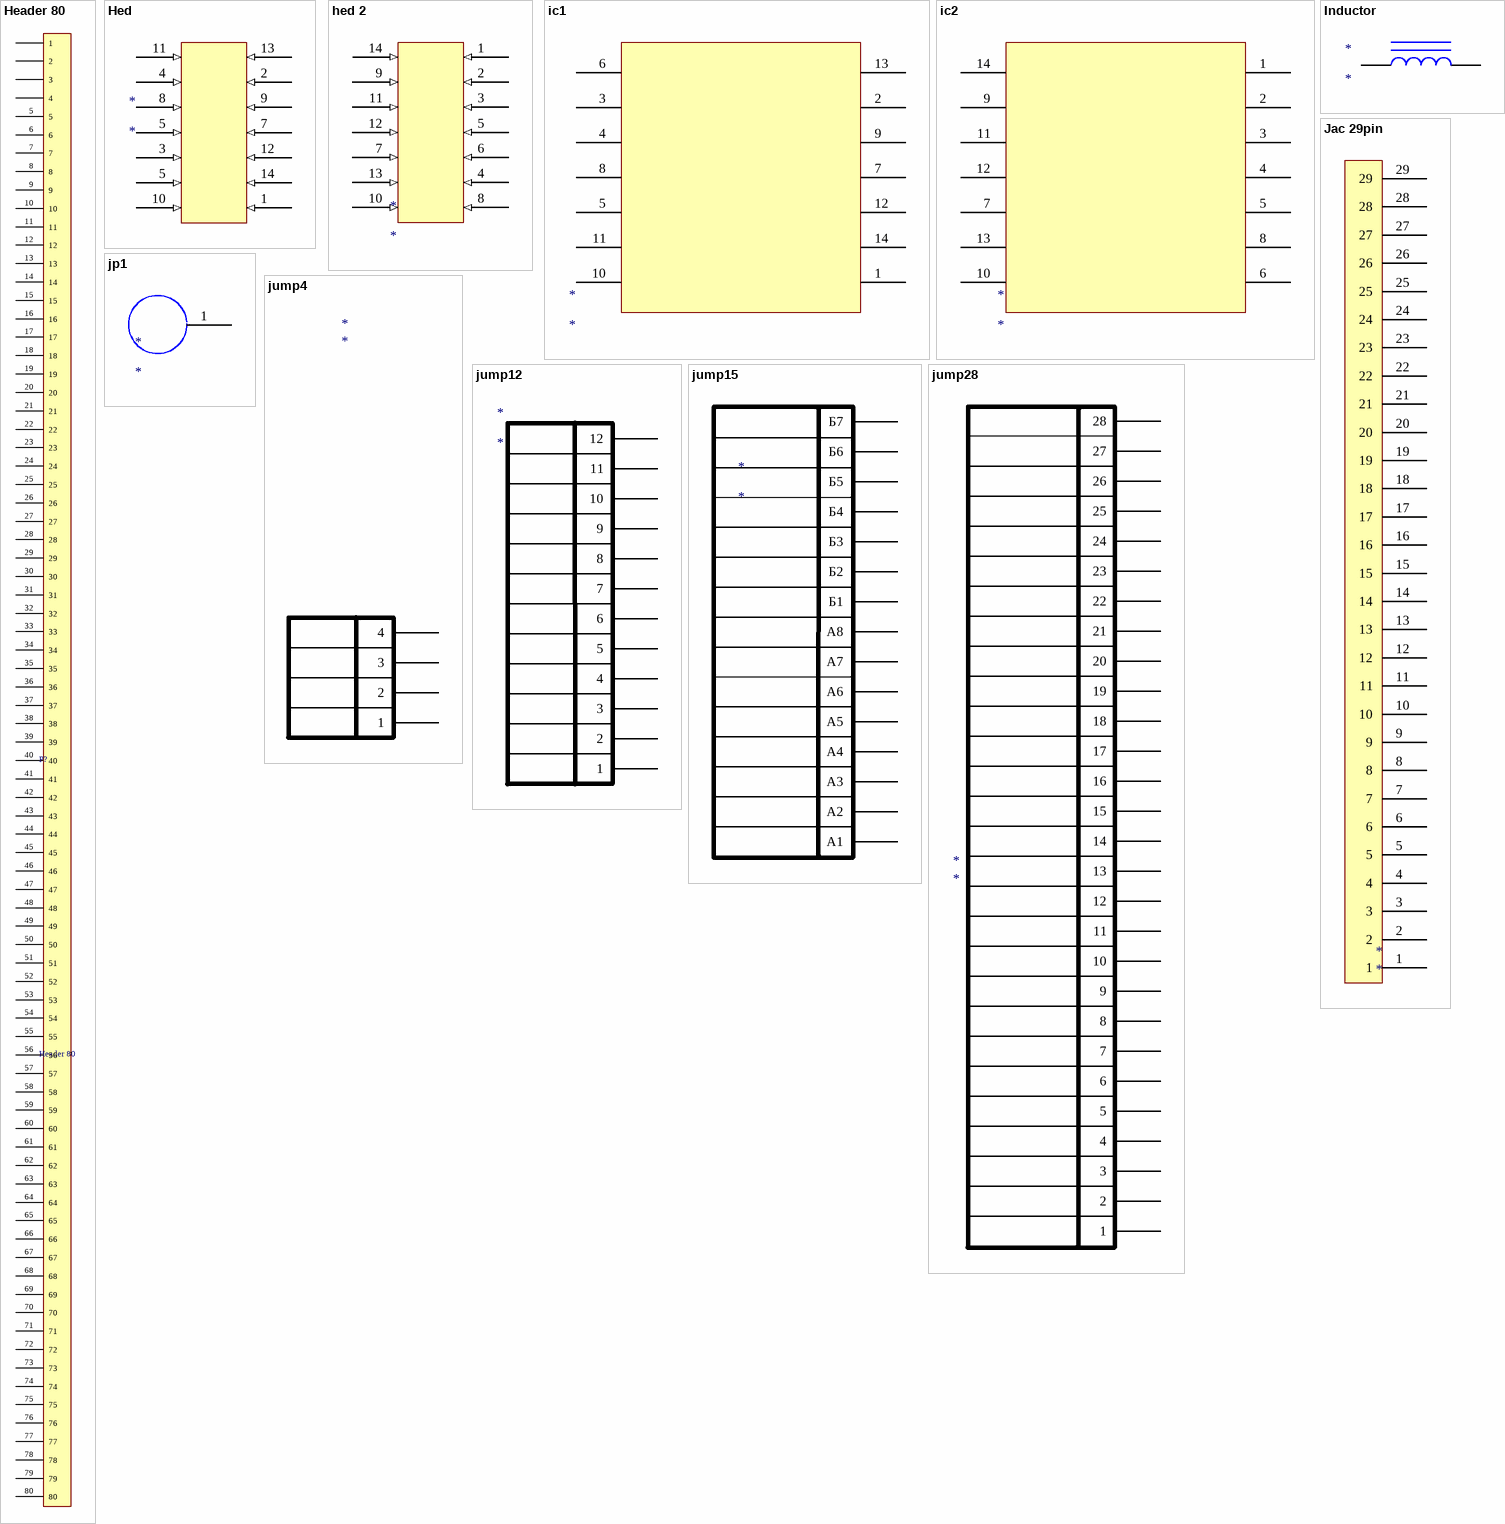
[diagram p7: symbols Header 80 to jump28]

## Header 80
designator P?
Header, 80-Pin; LatestRevisionDate: 17-Jul-2002; LatestRevisionNote: Re-released for DXP Platform.; Publisher: Altium Limited
signal-integrity model Connector
footprint DIP80
pins: 1, 2, 3, 4, 5, 6, 7, 8, 9, 10, 11, 12, 13, 14, 15, 16, 17, 18, 19, 20, 21, 22, 23, 24, 25, 26, 27, 28, 29, 30, 31, 32, 33, 34, 35, 36, 37, 38, 39, 40, 41, 42, 43, 44, 45, 46, 47, 48, 49, 50, 51, 52, 53, 54, 55, 56, 57, 58, 59, 60, 61, 62, 63, 64, 65, 66, 67, 68, 69, 70, 71, 72, 73, 74, 75, 76, 77, 78, 79, 80

## Hed
designator *
pins: 1 (in), 2 (in), 3 (in), 4 (in), 5 (in), 5 (in), 7 (in), 8 (in), 9 (in), 10 (in), 11 (in), 12 (in), 13 (in), 14 (in)

## hed 2
designator *
pins: 1 (in), 2 (in), 3 (in), 4 (in), 5 (in), 6 (in), 7 (in), 8 (in), 9 (in), 10 (in), 11 (in), 12 (in), 13 (in), 14 (in)

## ic1
designator *
pins: 1, 2, 3, 4, 5, 6, 7, 8, 9, 10, 11, 12, 13, 14

## ic2
designator *
pins: 1, 2, 3, 4, 5, 6, 7, 8, 9, 10, 11, 12, 13, 14

## Inductor
designator *
pins: 1, 2

## Jac 29pin
designator *
pins: 1, 2, 3, 4, 5, 6, 7, 8, 9, 10, 11, 12, 13, 14, 15, 16, 17, 18, 19, 20, 21, 22, 23, 24, 25, 26, 27, 28, 29

## jp1
designator *
pins: 1

## jump4
designator *
pins: ?1 1, ?2 2, ?3 3, ?4 4

## jump12
designator *
pins: ?1 1, ?2 2, ?3 3, ?4 4, ?5 5, ?6 6, ?7 7, ?8 8, ?9 9, ?10 10, ?11 11, ?12 12

## jump15
designator *
pins: ?1 A1, ?2 A2, ?3 A3, ?4 A4, ?5 A5, ?6 A6, ?7 A7, ?8 A8, ?9 Б1, ?10 Б2, ?11 Б3, ?12 Б4, ?13 Б5, ?14 Б6, ?15 Б7

## jump28
designator *
pins: ?1 1, ?2 2, ?3 3, ?4 4, ?5 5, ?6 6, ?7 7, ?8 8, ?9 9, ?10 10, ?11 11, ?12 12, ?13 13, ?14 14, ?15 15, ?16 16, ?17 17, ?18 18, ?19 19, ?20 20, ?21 21, ?22 22, ?23 23, ?24 24, ?25 25, ?26 26, ?27 27, ?28 28

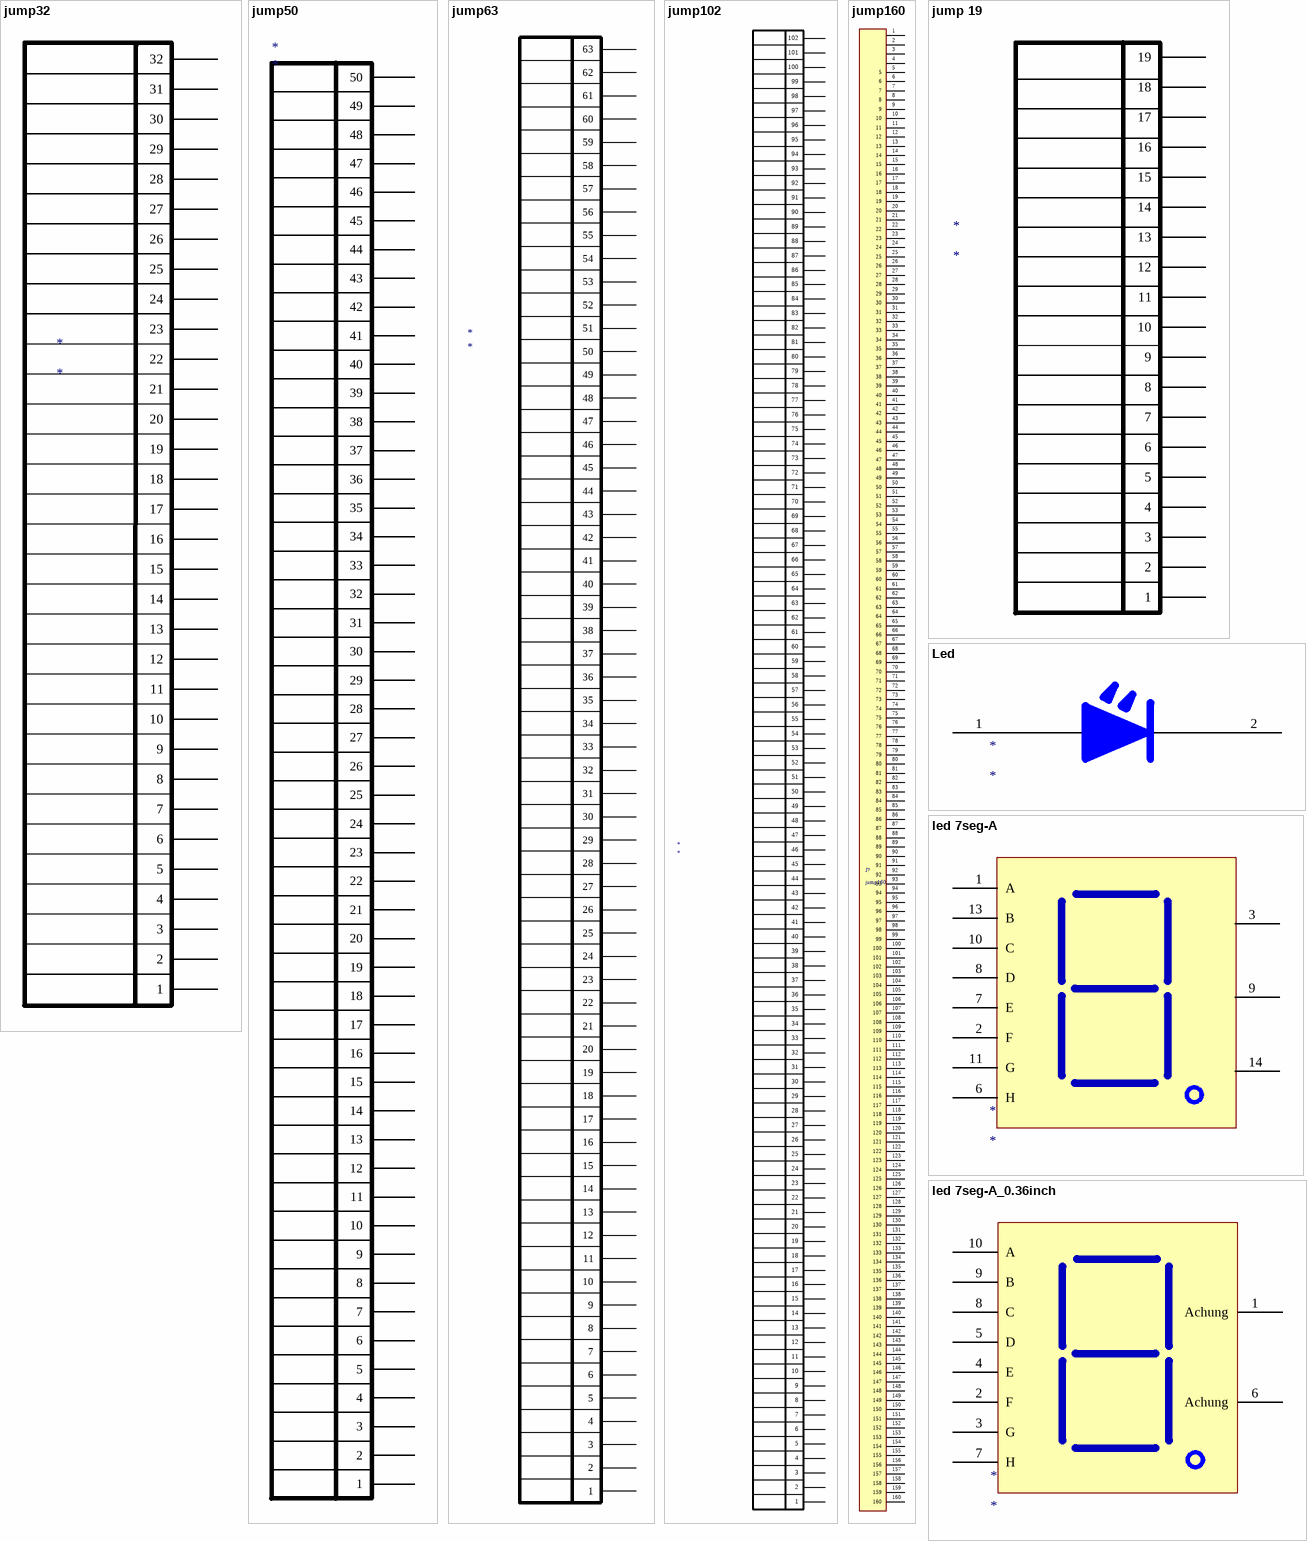
[diagram p8: symbols jump32 to led 7seg-A_0.36inch]

## jump32
designator *
pins: ?1 1, ?2 2, ?3 3, ?4 4, ?5 5, ?6 6, ?7 7, ?8 8, ?9 9, ?10 10, ?11 11, ?12 12, ?13 13, ?14 14, ?15 15, ?16 16, ?17 17, ?18 18, ?19 19, ?20 20, ?21 21, ?22 22, ?23 23, ?24 24, ?25 25, ?26 26, ?27 27, ?28 28, ?29 29, ?30 30, ?31 31, ?32 32

## jump50
designator *
pins: ?1 1, ?2 2, ?3 3, ?4 4, ?5 5, ?6 6, ?7 7, ?8 8, ?9 9, ?10 10, ?11 11, ?12 12, ?13 13, ?14 14, ?15 15, ?16 16, ?17 17, ?18 18, ?19 19, ?20 20, ?21 21, ?22 22, ?23 23, ?24 24, ?25 25, ?26 26, ?27 27, ?28 28, ?29 29, ?30 30, ?31 31, ?32 32, ?33 33, ?34 34, ?35 35, ?36 36, ?37 37, ?38 38, ?39 39, ?40 40, ?41 41, ?42 42, ?43 43, ?44 44, ?45 45, ?46 46, ?47 47, ?48 48, ?49 49, ?50 50

## jump63
designator *
pins: ?1 1, ?2 2, ?3 3, ?4 4, ?5 5, ?6 6, ?7 7, ?8 8, ?9 9, ?10 10, ?11 11, ?12 12, ?13 13, ?14 14, ?15 15, ?16 16, ?17 17, ?18 18, ?19 19, ?20 20, ?21 21, ?22 22, ?23 23, ?24 24, ?25 25, ?26 26, ?27 27, ?28 28, ?29 29, ?30 30, ?31 31, ?32 32, ?33 33, ?34 34, ?35 35, ?36 36, ?37 37, ?38 38, ?39 39, ?40 40, ?41 41, ?42 42, ?43 43, ?44 44, ?45 45, ?46 46, ?47 47, ?48 48, ?49 49, ?50 50, ?51 51, ?52 52, ?53 53, ?54 54, ?55 55, ?56 56, ?57 57, ?58 58, ?59 59, ?60 60, ?61 61, ?62 62, ?63 63

## jump102
designator *
pins: ?1 1, ?2 2, ?3 3, ?4 4, ?5 5, ?6 6, ?7 7, ?8 8, ?9 9, ?10 10, ?11 11, ?12 12, ?13 13, ?14 14, ?15 15, ?16 16, ?17 17, ?18 18, ?19 19, ?20 20, ?21 21, ?22 22, ?23 23, ?24 24, ?25 25, ?26 26, ?27 27, ?28 28, ?29 29, ?30 30, ?31 31, ?32 32, ?33 33, ?34 34, ?35 35, ?36 36, ?37 37, ?38 38, ?39 39, ?40 40, ?41 41, ?42 42, ?43 43, ?44 44, ?45 45, ?46 46, ?47 47, ?48 48, ?49 49, ?50 50, ?51 51, ?52 52, ?53 53, ?54 54, ?55 55, ?56 56, ?57 57, ?58 58, ?59 59, ?60 60, ?61 61, ?62 62, ?63 63, ?64 64, ?65 65, ?66 66, ?67 67, ?68 68, ?69 69, ?70 70, ?71 71, ?72 72, ?73 73, ?74 74, ?75 75, ?76 76, ?77 77, ?78 78, ?79 79, ?80 80, ?81 81, ?82 82, ?83 83, ?84 84, ?85 85, ?86 86, ?87 87, ?88 88, ?89 89, ?90 90, ?91 91, ?92 92, ?93 93, ?94 94, ?95 95, ?96 96, ?97 97, ?98 98, ?99 99, ?100 100, ?101 101, ?102 102

## jump160
designator J?
pins: 1  , 2  , 3  , 4  , 5, 6, 7, 8, 9, 10, 11, 12, 13, 14, 15, 16, 17, 18, 19, 20, 21, 22, 23, 24, 25, 26, 27, 28, 29, 30, 31, 32, 33, 34, 35, 36, 37, 38, 39, 40, 41, 42, 43, 44, 45, 46, 47, 48, 49, 50, 51, 52, 53, 54, 55, 56, 57, 58, 59, 60, 61, 62, 63, 64, 65, 66, 67, 68, 69, 70, 71, 72, 73, 74, 75, 76, 77, 78, 79, 80, 81, 82, 83, 84, 85, 86, 87, 88, 89, 90, 91, 92, 93, 94, 95, 96, 97, 98, 99, 100, 101, 102, 103, 104, 105, 106, 107, 108, 109, 110, 111, 112, 113, 114, 115, 116, 117, 118, 119, 120, 121, 122, 123, 124, 125, 126, 127, 128, 129, 130, 131, 132, 133, 134, 135, 136, 137, 138, 139, 140, 141, 142, 143, 144, 145, 146, 147, 148, 149, 150, 151, 152, 153, 154, 155, 156, 157, 158, 159, 160

## jump 19
designator *
pins: ?1 1, ?2 2, ?3 3, ?4 4, ?5 5, ?6 6, ?7 7, ?8 8, ?9 9, ?10 10, ?11 11, ?12 12, ?13 13, ?14 14, ?15 15, ?16 16, ?17 17, ?18 18, ?19 19

## Led
designator *
pins: 1, 2

## led 7seg-A
designator *
pins: 1 A, 2 F, 3 A, 6 H, 7 E, 8 D, 9 A, 10 C, 11 G, 13 B, 14 A

## led 7seg-A_0.36inch
designator *
footprint Led 7 sec 0.36inh
pins: 1 Achung, 2 F, 3 G, 4 E, 5 D, 6 Achung, 7 H, 8 C, 9 B, 10 A

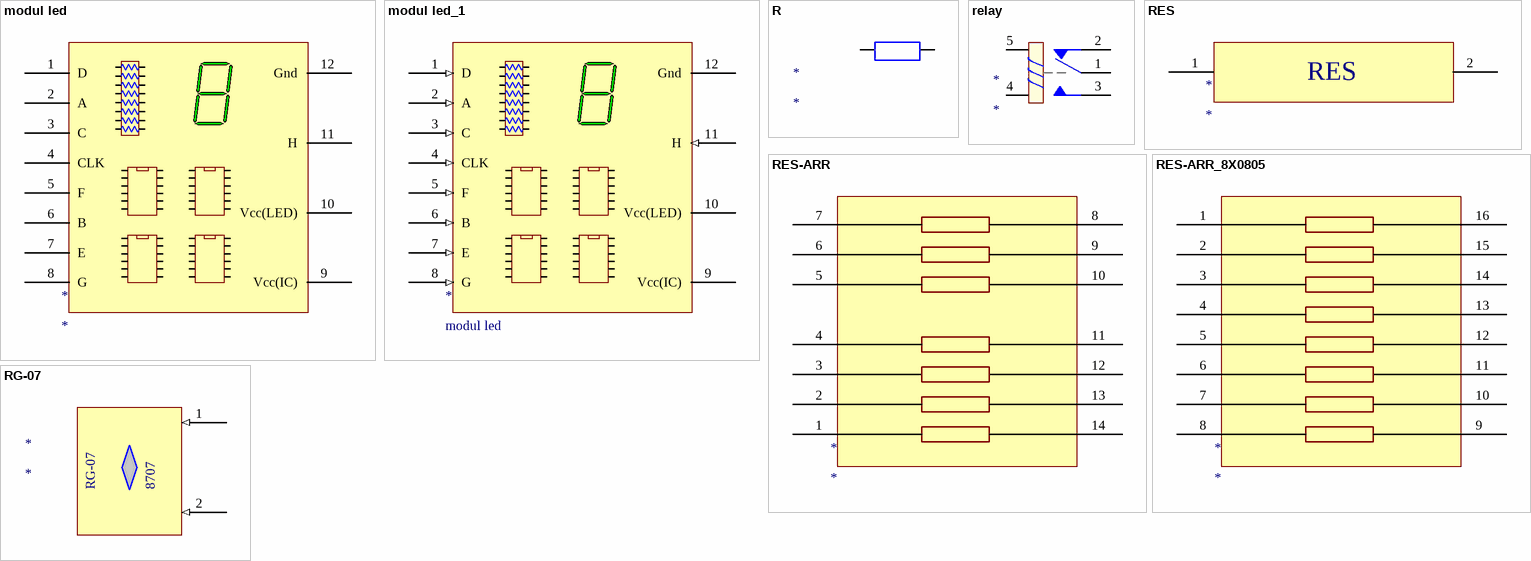
[diagram p9: symbols modul led to RG-07]

## modul led
designator *
pins: 1 D, 2 A, 3 C, 4 CLK, 5 F, 6 B, 7 E, 8 G, 9 Vcc(IC), 10 Vcc(LED), 11 H, 12 Gnd

## modul led_1
designator *, comment modul led
footprint de module Led7
pins: 1 D (in), 2 A (in), 3 C (in), 4 CLK (in), 5 F (in), 6 B (in), 7 E (in), 8 G (in), 9 Vcc(IC) (power), 10 Vcc(LED) (power), 11 H (in), 12 Gnd (power)

## R
designator *
pins: 1 "R5W", 2 "R5W"

## relay
designator *
pins: 1, 2, 3, 4, 5

## RES
designator *
pins: 1, 2

## RES-ARR
designator *
footprint SMC-14R - DIEN TRO 8X0805
pins: 1, 2, 3, 4, 5, 6, 7, 8, 9, 10, 11, 12, 13, 14

## RES-ARR_8X0805
designator *
footprint Dien tro mang 8X0805
pins: 1, 2, 3, 4, 5, 6, 7, 8, 9, 10, 11, 12, 13, 14, 15, 16

## RG-07
designator *
footprint Tu 25mm
pins: 1 (in), 2 (in)
text: 8707

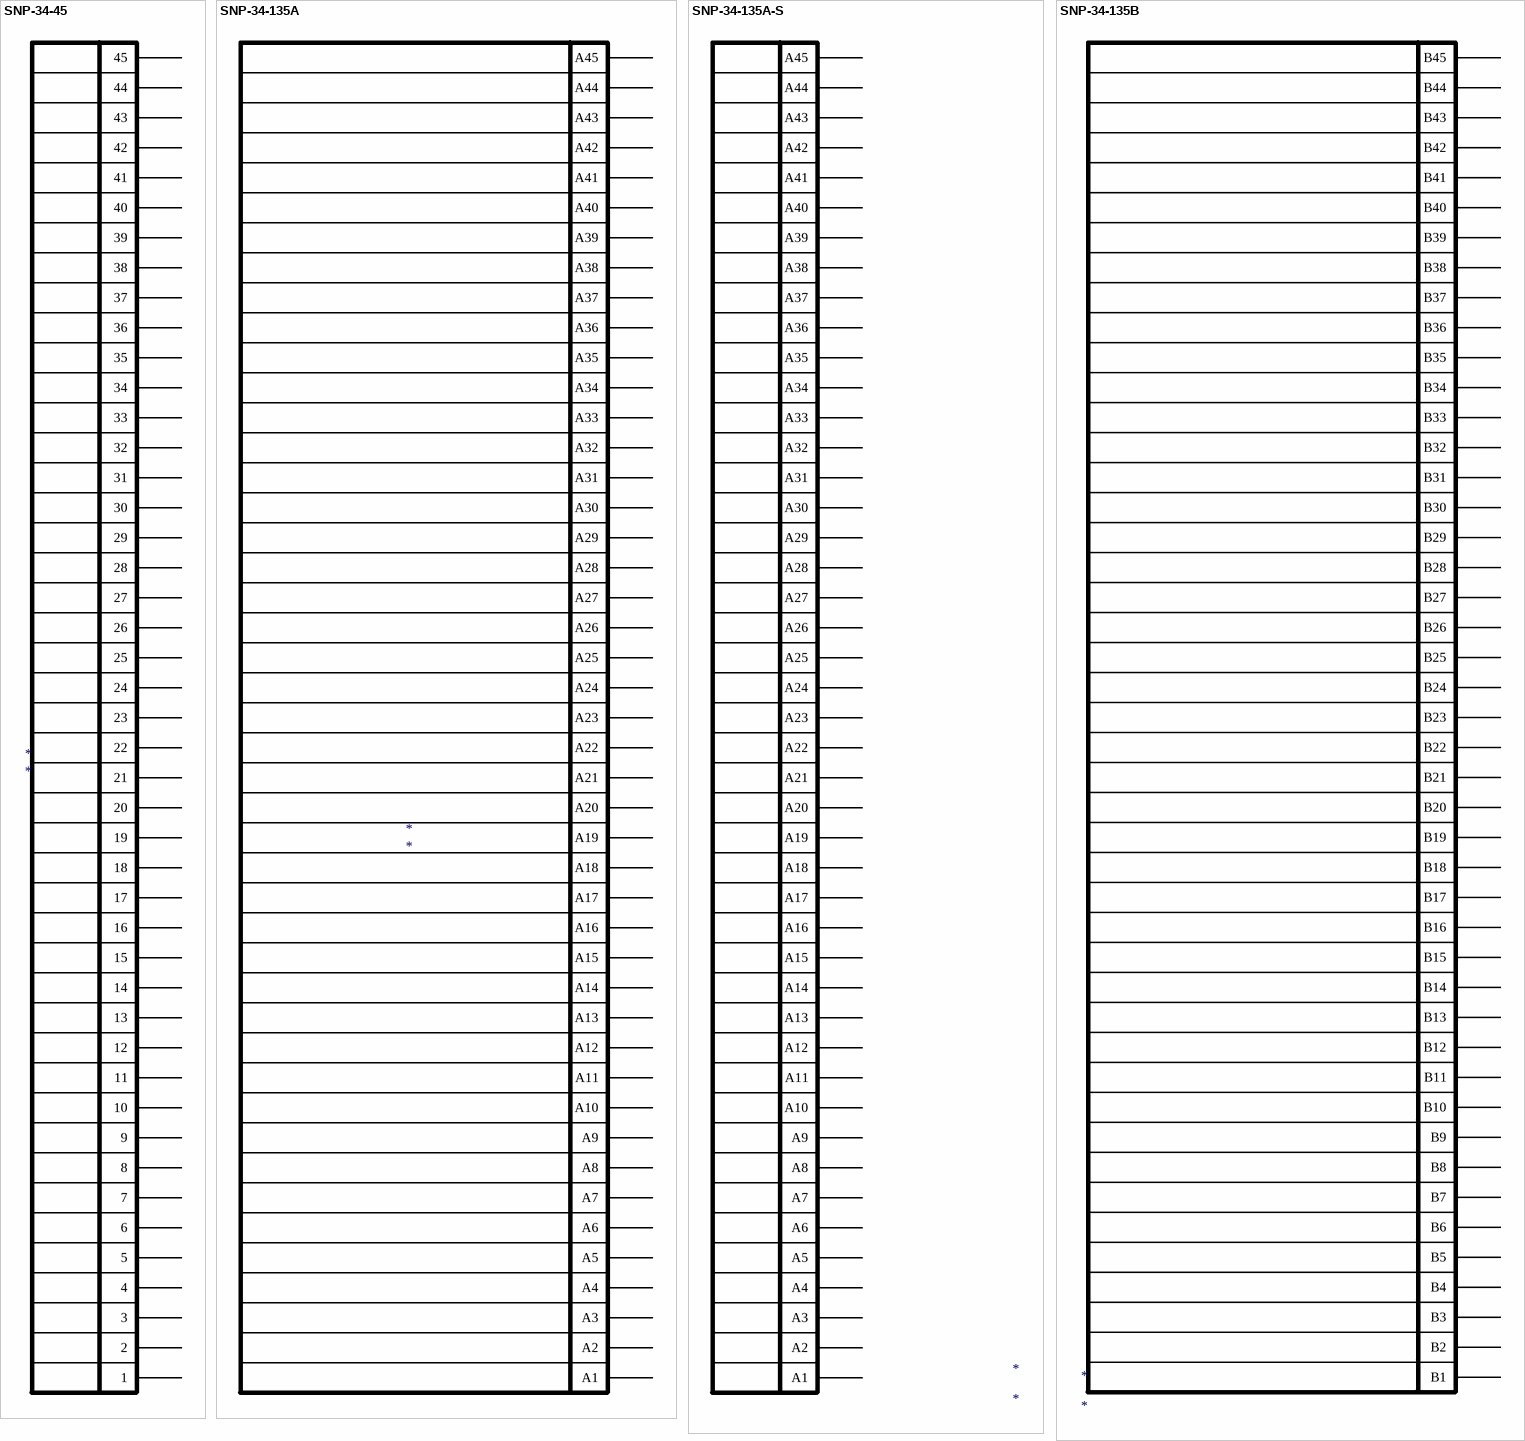
[diagram p10: symbols SNP-34-45 to SNP-34-135B]

## SNP-34-45
designator *
pins: ?1 1, ?2 2, ?3 3, ?4 4, ?5 5, ?6 6, ?7 7, ?8 8, ?9 9, ?10 10, ?11 11, ?12 12, ?13 13, ?14 14, ?15 44, ?16 45, ?17 15, ?18 16, ?19 17, ?20 18, ?21 19, ?22 20, ?23 21, ?24 22, ?25 23, ?26 24, ?27 25, ?28 26, ?29 27, ?30 28, ?31 29, ?32 30, ?33 31, ?34 32, ?35 33, ?36 34, ?37 35, ?38 36, ?39 37, ?40 38, ?41 39, ?42 40, ?43 41, ?44 42, ?45 43

## SNP-34-135A
designator *
pins: ?1 A1, ?2 A2, ?3 A3, ?4 A4, ?5 A5, ?6 A6, ?7 A7, ?8 A8, ?9 A9, ?10 A10, ?11 A11, ?12 A12, ?13 A13, ?14 A14, ?15 A15, ?16 A16, ?17 A17, ?18 A18, ?19 A19, ?20 A20, ?21 A21, ?22 A22, ?23 A23, ?24 A24, ?25 A25, ?26 A26, ?27 A27, ?28 A28, ?29 A29, ?30 A30, ?31 A31, ?32 A32, ?33 A33, ?34 A34, ?35 A35, ?36 A36, ?37 A37, ?38 A38, ?39 A39, ?40 A40, ?41 A41, ?42 A42, ?43 A43, ?44 A44, ?45 A45

## SNP-34-135A-S
designator *
pins: ?1 A1, ?2 A2, ?3 A3, ?4 A4, ?5 A5, ?6 A6, ?7 A7, ?8 A8, ?9 A9, ?10 A10, ?11 A11, ?12 A12, ?13 A13, ?14 A14, ?15 A15, ?16 A16, ?17 A17, ?18 A18, ?19 A19, ?20 A20, ?21 A21, ?22 A22, ?23 A23, ?24 A24, ?25 A25, ?26 A26, ?27 A27, ?28 A28, ?29 A29, ?30 A30, ?31 A31, ?32 A32, ?33 A33, ?34 A34, ?35 A35, ?36 A36, ?37 A37, ?38 A38, ?39 A39, ?40 A40, ?41 A41, ?42 A42, ?43 A43, ?44 A44, ?45 A45

## SNP-34-135B
designator *
pins: ?1 B1, ?2 B2, ?3 B3, ?4 B4, ?5 B5, ?6 B6, ?7 B7, ?8 B8, ?9 B9, ?10 B10, ?11 B11, ?12 B12, ?13 B13, ?14 B14, ?15 B15, ?16 B16, ?17 B17, ?18 B18, ?19 B19, ?20 B20, ?21 B21, ?22 B22, ?23 B23, ?24 B24, ?25 B25, ?26 B26, ?27 B27, ?28 B28, ?29 B29, ?30 B30, ?31 B31, ?32 B32, ?33 B33, ?34 B34, ?35 B35, ?36 B36, ?37 B37, ?38 B38, ?39 B39, ?40 B40, ?41 B41, ?42 B42, ?43 B43, ?44 B44, ?45 B45

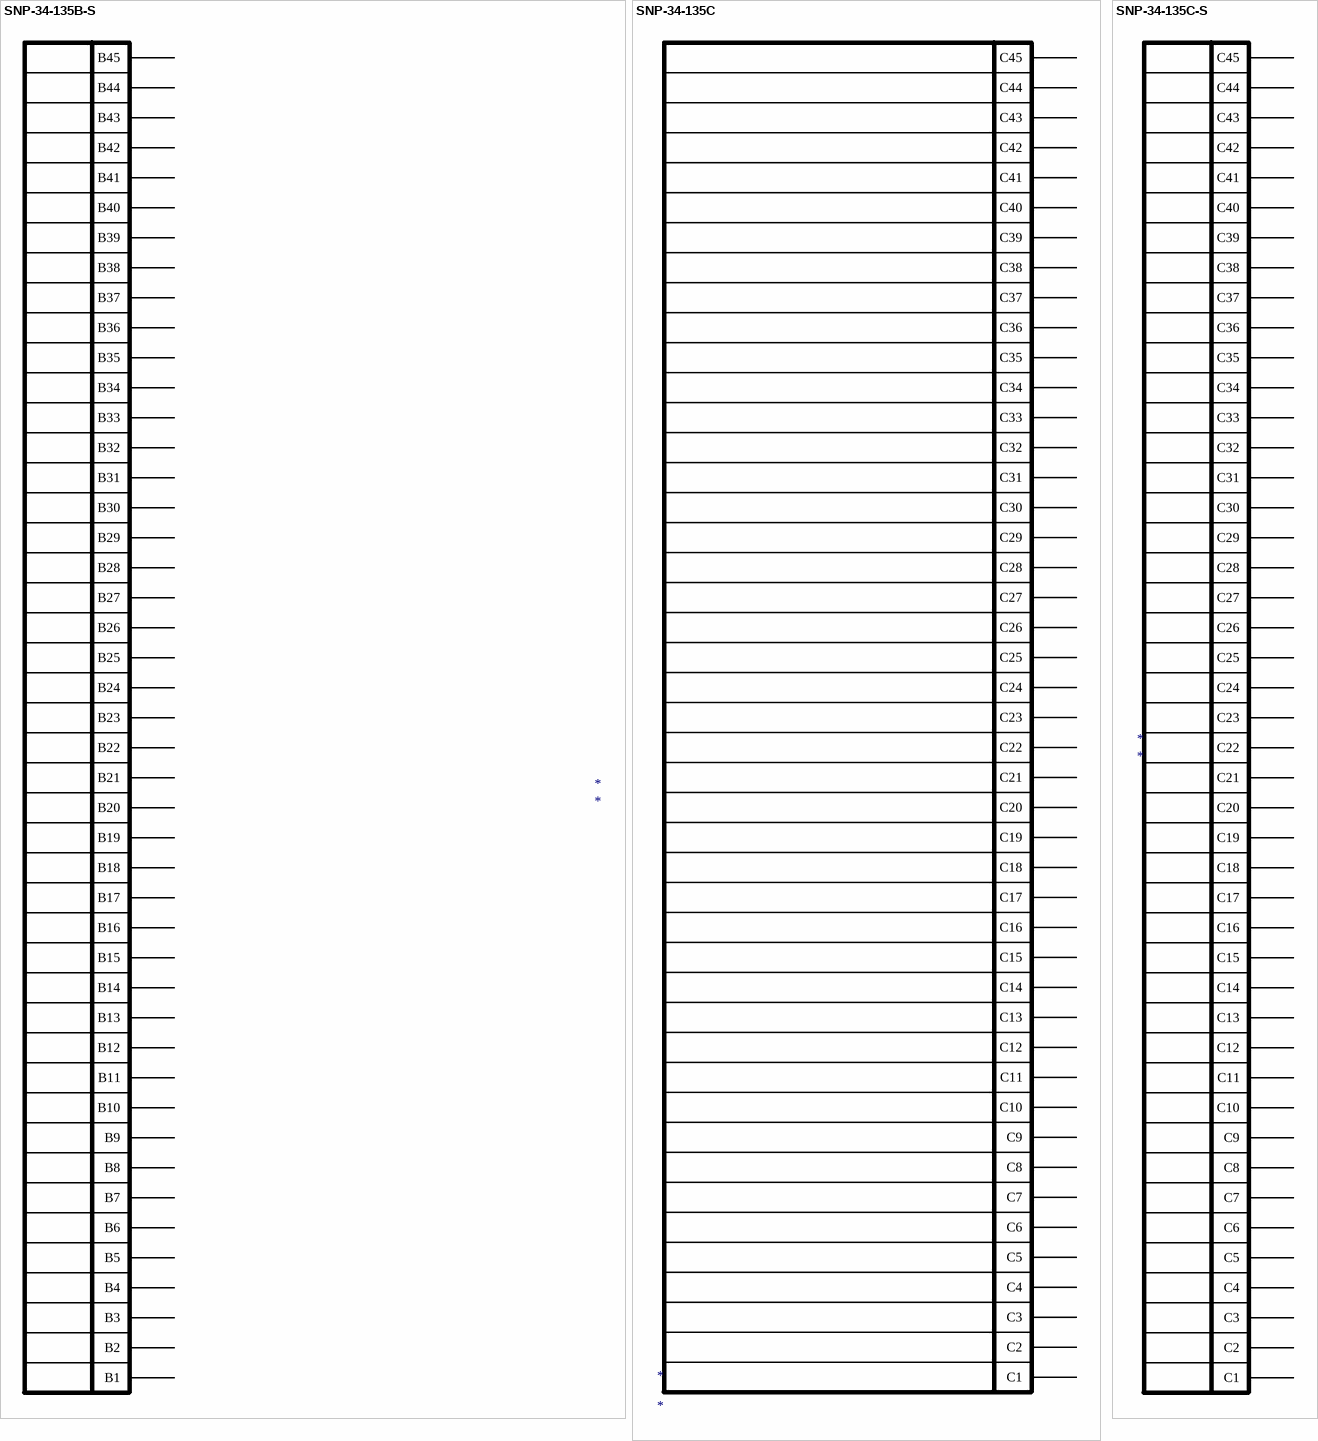
[diagram p11: symbols SNP-34-135B-S to SNP-34-135C-S]

## SNP-34-135B-S
designator *
pins: ?1 B1, ?2 B2, ?3 B3, ?4 B4, ?5 B5, ?6 B6, ?7 B7, ?8 B8, ?9 B9, ?10 B10, ?11 B11, ?12 B12, ?13 B13, ?14 B14, ?15 B15, ?16 B16, ?17 B17, ?18 B18, ?19 B19, ?20 B20, ?21 B21, ?22 B22, ?23 B23, ?24 B24, ?25 B25, ?26 B26, ?27 B27, ?28 B28, ?29 B29, ?30 B30, ?31 B31, ?32 B32, ?33 B33, ?34 B34, ?35 B35, ?36 B36, ?37 B37, ?38 B38, ?39 B39, ?40 B40, ?41 B41, ?42 B42, ?43 B43, ?44 B44, ?45 B45

## SNP-34-135C
designator *
pins: ?1 C1, ?2 C2, ?3 C3, ?4 C4, ?5 C5, ?6 C6, ?7 C7, ?8 C8, ?9 C9, ?10 C10, ?11 C11, ?12 C12, ?13 C13, ?14 C14, ?15 C44, ?16 C45, ?17 C15, ?18 C16, ?19 C17, ?20 C18, ?21 C19, ?22 C20, ?23 C21, ?24 C22, ?25 C23, ?26 C24, ?27 C25, ?28 C26, ?29 C27, ?30 C28, ?31 C29, ?32 C30, ?33 C31, ?34 C32, ?35 C33, ?36 C34, ?37 C35, ?38 C36, ?39 C37, ?40 C38, ?41 C39, ?42 C40, ?43 C41, ?44 C42, ?45 C43

## SNP-34-135C-S
designator *
pins: ?1 C1, ?2 C2, ?3 C3, ?4 C4, ?5 C5, ?6 C6, ?7 C7, ?8 C8, ?9 C9, ?10 C10, ?11 C11, ?12 C12, ?13 C13, ?14 C14, ?15 C44, ?16 C45, ?17 C15, ?18 C16, ?19 C17, ?20 C18, ?21 C19, ?22 C20, ?23 C21, ?24 C22, ?25 C23, ?26 C24, ?27 C25, ?28 C26, ?29 C27, ?30 C28, ?31 C29, ?32 C30, ?33 C31, ?34 C32, ?35 C33, ?36 C34, ?37 C35, ?38 C36, ?39 C37, ?40 C38, ?41 C39, ?42 C40, ?43 C41, ?44 C42, ?45 C43

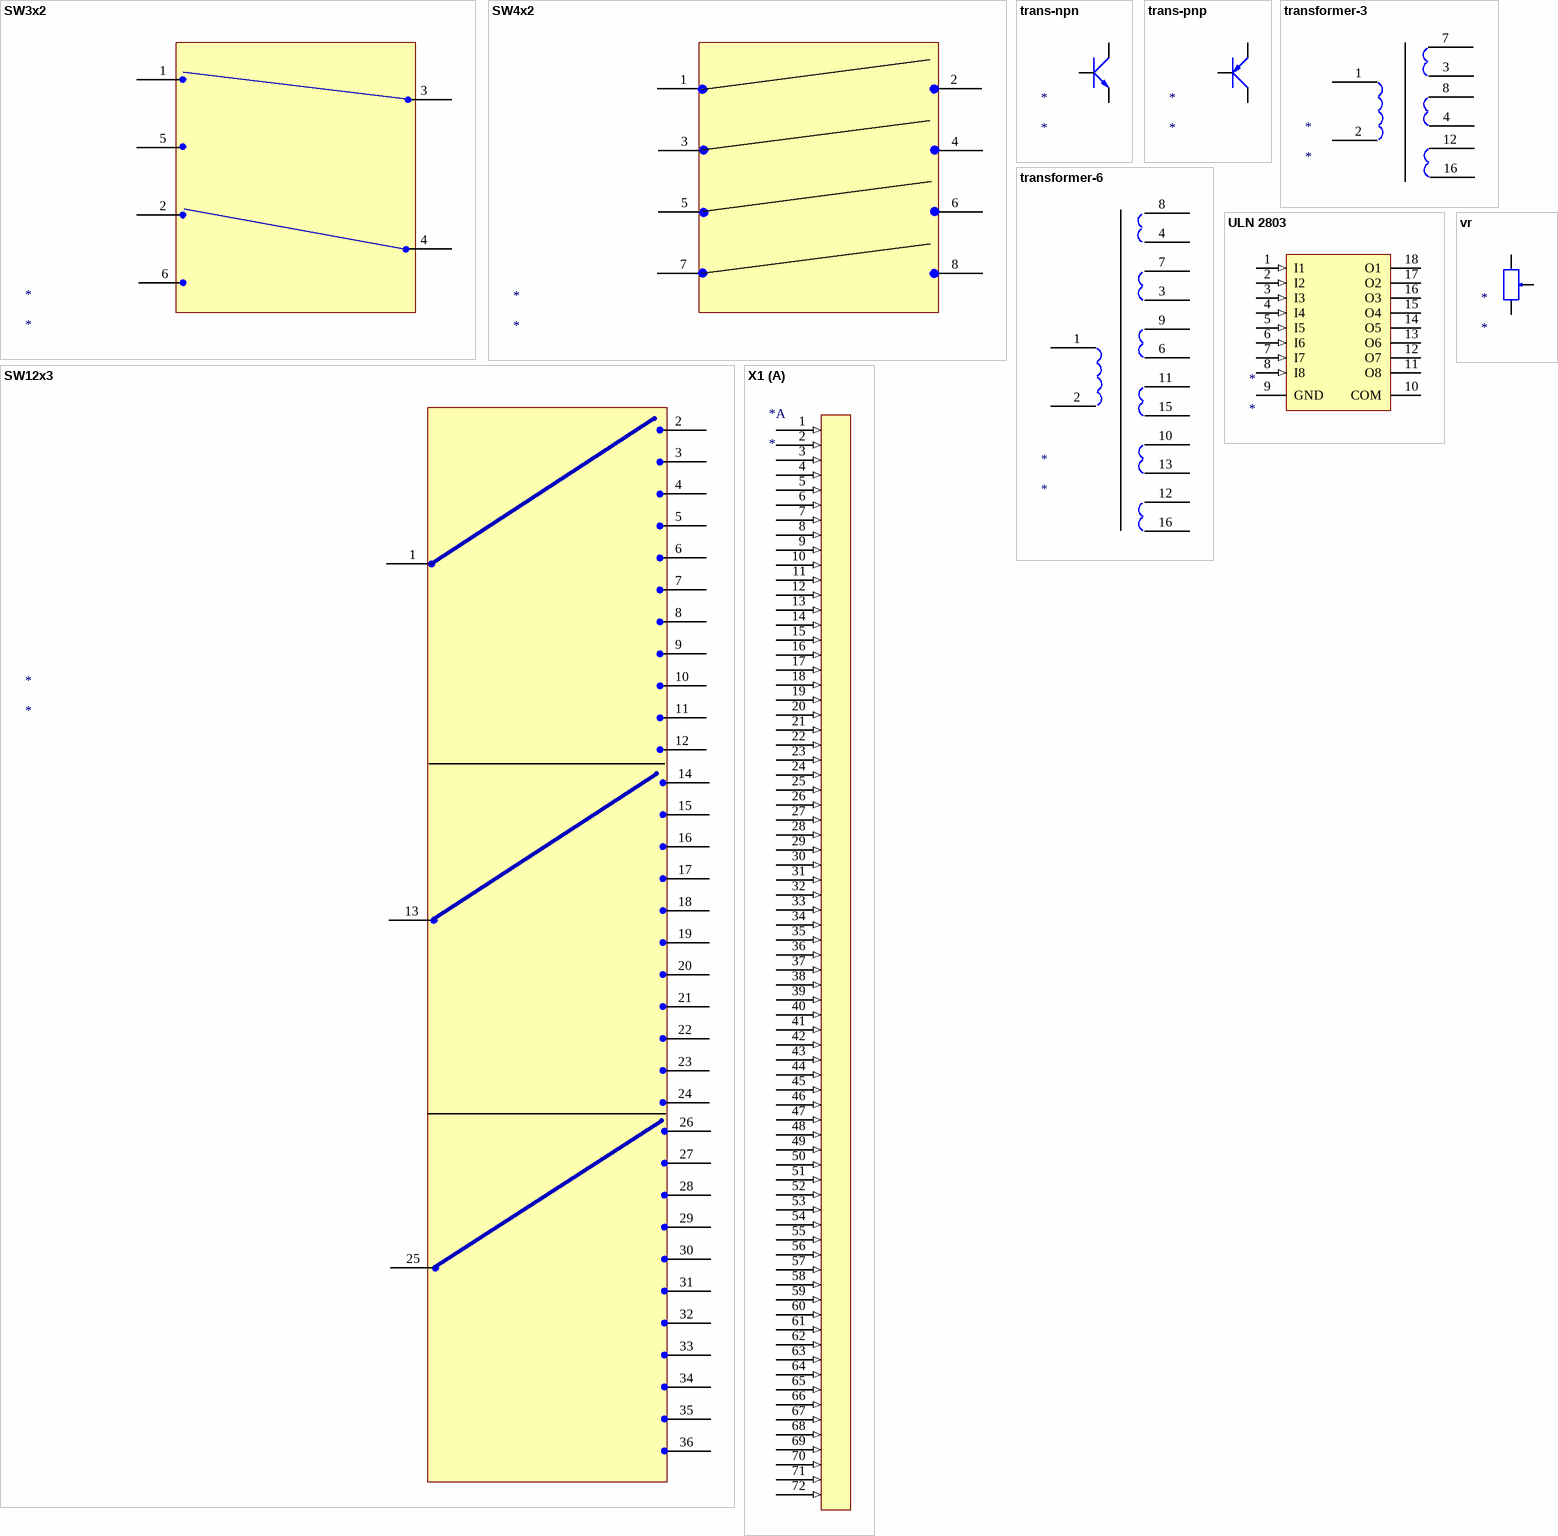
[diagram p12: symbols SW3x2 to X1]

## SW3x2
designator *
pins: 1, 2, 3, 4, 5, 6

## SW4x2
designator *
pins: 1, 2, 3, 4, 5, 6, 7, 8

## SW12x3
designator *
pins: 1, 2, 3, 4, 5, 6, 7, 8, 9, 10, 11, 12, 13, 14, 15, 16, 17, 18, 19, 20, 21, 22, 23, 24, 25, 26, 27, 28, 29, 30, 31, 32, 33, 34, 35, 36

## trans-npn
designator *
pins: 1, 2, 3

## trans-pnp
designator *
pins: 1, 2, 3

## transformer-3
designator *
pins: 1 17, 2 18, 3 4, 4, 7 3, 8 3, 12 3, 16 4

## transformer-6
designator *
pins: 1, 2, 3, 4, 6, 7, 8, 9, 10, 11, 12, 13, 15, 16

## ULN 2803
designator *
footprint SOP127P1030X265-18N (SOP, 18-Leads, Body 11.30x7.50mm, Pitch 1.27mm, IPC Medium Density)
pins: 1 I1 (in), 2 I2 (in), 3 I3 (in), 4 I4 (in), 5 I5 (in), 6 I6 (in), 7 I7 (in), 8 I8 (in), 9 GND (power), 10 COM, 11 O8 (oc), 12 O7 (oc), 13 O6 (oc), 14 O5 (oc), 15 O4 (oc), 16 O3 (oc), 17 O2 (oc), 18 O1 (oc)

## vr
designator *
pins: 1, 2, 3

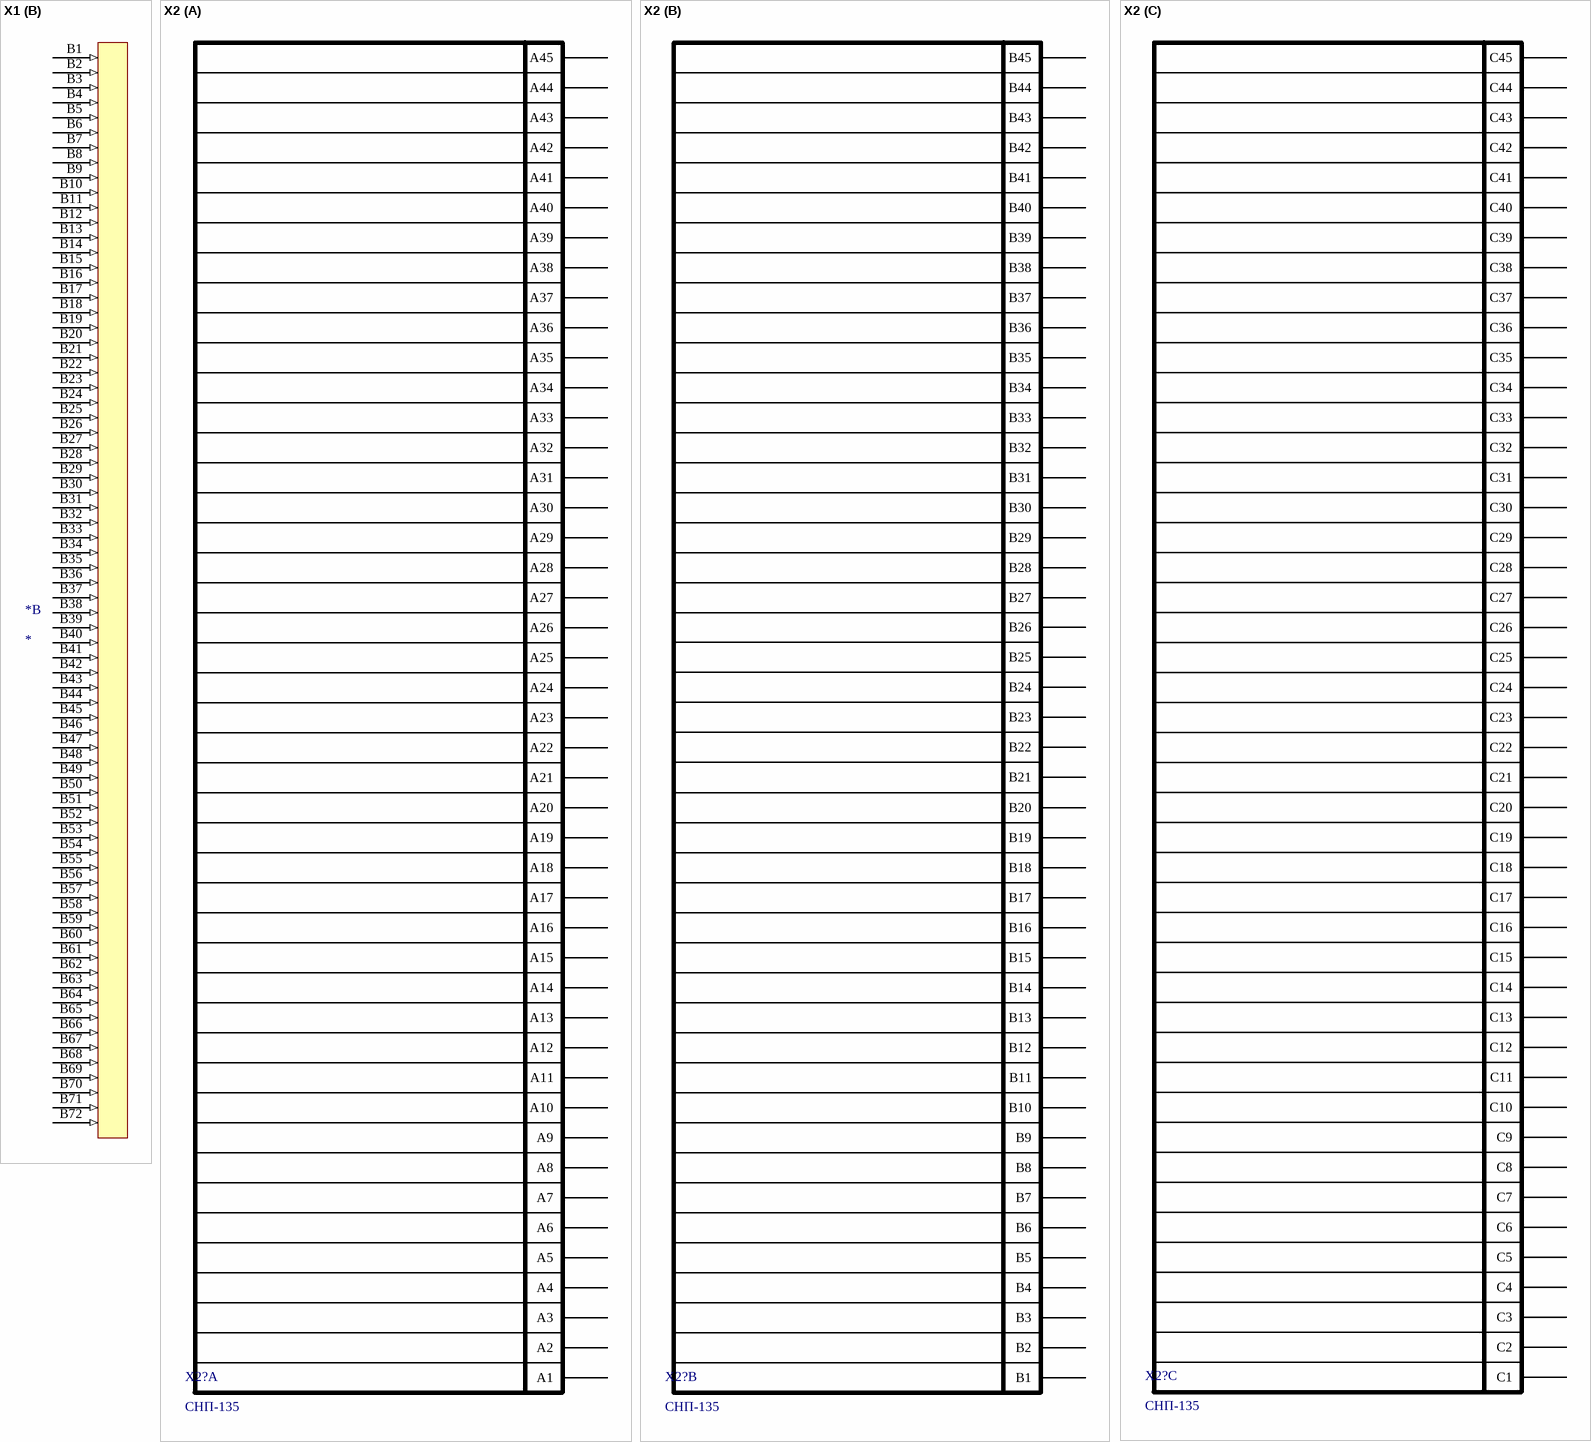
[diagram p13: symbols X1 to X2]

## X1
designator *
footprint X1A_new (nEW)
part A pins: 1 (in), 2 (in), 3 (in), 4 (in), 5 (in), 6 (in), 7 (in), 8 (in), 9 (in), 10 (in), 11 (in), 12 (in), 13 (in), 14 (in), 15 (in), 16 (in), 17 (in), 18 (in), 19 (in), 20 (in), 21 (in), 22 (in), 23 (in), 24 (in), 25 (in), 26 (in), 27 (in), 28 (in), 29 (in), 30 (in), 31 (in), 32 (in), 33 (in), 34 (in), 35 (in), 36 (in), 37 (in), 38 (in), 39 (in), 40 (in), 41 (in), 42 (in), 43 (in), 44 (in), 45 (in), 46 (in), 47 (in), 48 (in), 49 (in), 50 (in), 51 (in), 52 (in), 53 (in), 54 (in), 55 (in), 56 (in), 57 (in), 58 (in), 59 (in), 60 (in), 61 (in), 62 (in), 63 (in), 64 (in), 65 (in), 66 (in), 67 (in), 68 (in), 69 (in), 70 (in), 71 (in), 72 (in)
part B pins: B1 (in), B2 (in), B3 (in), B4 (in), B5 (in), B6 (in), B7 (in), B8 (in), B9 (in), B10 (in), B11 (in), B12 (in), B13 (in), B14 (in), B15 (in), B16 (in), B17 (in), B18 (in), B19 (in), B20 (in), B21 (in), B22 (in), B23 (in), B24 (in), B25 (in), B26 (in), B27 (in), B28 (in), B29 (in), B30 (in), B31 (in), B32 (in), B33 (in), B34 (in), B35 (in), B36 (in), B37 (in), B38 (in), B39 (in), B40 (in), B41 (in), B42 (in), B43 (in), B44 (in), B45 (in), B46 (in), B47 (in), B48 (in), B49 (in), B50 (in), B51 (in), B52 (in), B53 (in), B54 (in), B55 (in), B56 (in), B57 (in), B58 (in), B59 (in), B60 (in), B61 (in), B62 (in), B63 (in), B64 (in), B65 (in), B66 (in), B67 (in), B68 (in), B69 (in), B70 (in), B71 (in), B72 (in)

## X2
designator X2?, comment СНП-135
footprint X2
part A pins: 1 A1, 2 A2, 3 A3, 4 A4, 5 A5, 6 A6, 7 A7, 8 A8, 9 A9, 10 A10, 11 A11, 12 A12, 13 A13, 14 A14, 15 A15, 16 A16, 17 A17, 18 A18, 19 A19, 20 A20, 21 A21, 22 A22, 23 A23, 24 A24, 25 A25, 26 A26, 27 A27, 28 A28, 29 A29, 30 A30, 31 A31, 32 A32, 33 A33, 34 A34, 35 A35, 36 A36, 37 A37, 38 A38, 39 A39, 40 A40, 41 A41, 42 A42, 43 A43, 44 A44, 45 A45
part B pins: 46 B1, 47 B2, 48 B3, 49 B4, 50 B5, 51 B6, 52 B7, 53 B8, 54 B9, 55 B10, 56 B11, 57 B12, 58 B13, 59 B14, 60 B15, 61 B16, 62 B17, 63 B18, 64 B19, 65 B20, 66 B21, 67 B22, 68 B23, 69 B24, 70 B25, 71 B26, 72 B27, 73 B28, 74 B29, 75 B30, 76 B31, 77 B32, 78 B33, 79 B34, 80 B35, 81 B36, 82 B37, 83 B38, 84 B39, 85 B40, 86 B41, 87 B42, 88 B43, 89 B44, 90 B45
part C pins: 91 C1, 92 C2, 93 C3, 94 C4, 95 C5, 96 C6, 97 C7, 98 C8, 99 C9, 100 C10, 101 C11, 102 C12, 103 C13, 104 C14, 105 C15, 106 C16, 107 C17, 108 C18, 109 C19, 110 C20, 111 C21, 112 C22, 113 C23, 114 C24, 115 C25, 116 C26, 117 C27, 118 C28, 119 C29, 120 C30, 121 C31, 122 C32, 123 C33, 124 C34, 125 C35, 126 C36, 127 C37, 128 C38, 129 C39, 130 C40, 131 C41, 132 C42, 133 C43, 134 C44, 135 C45

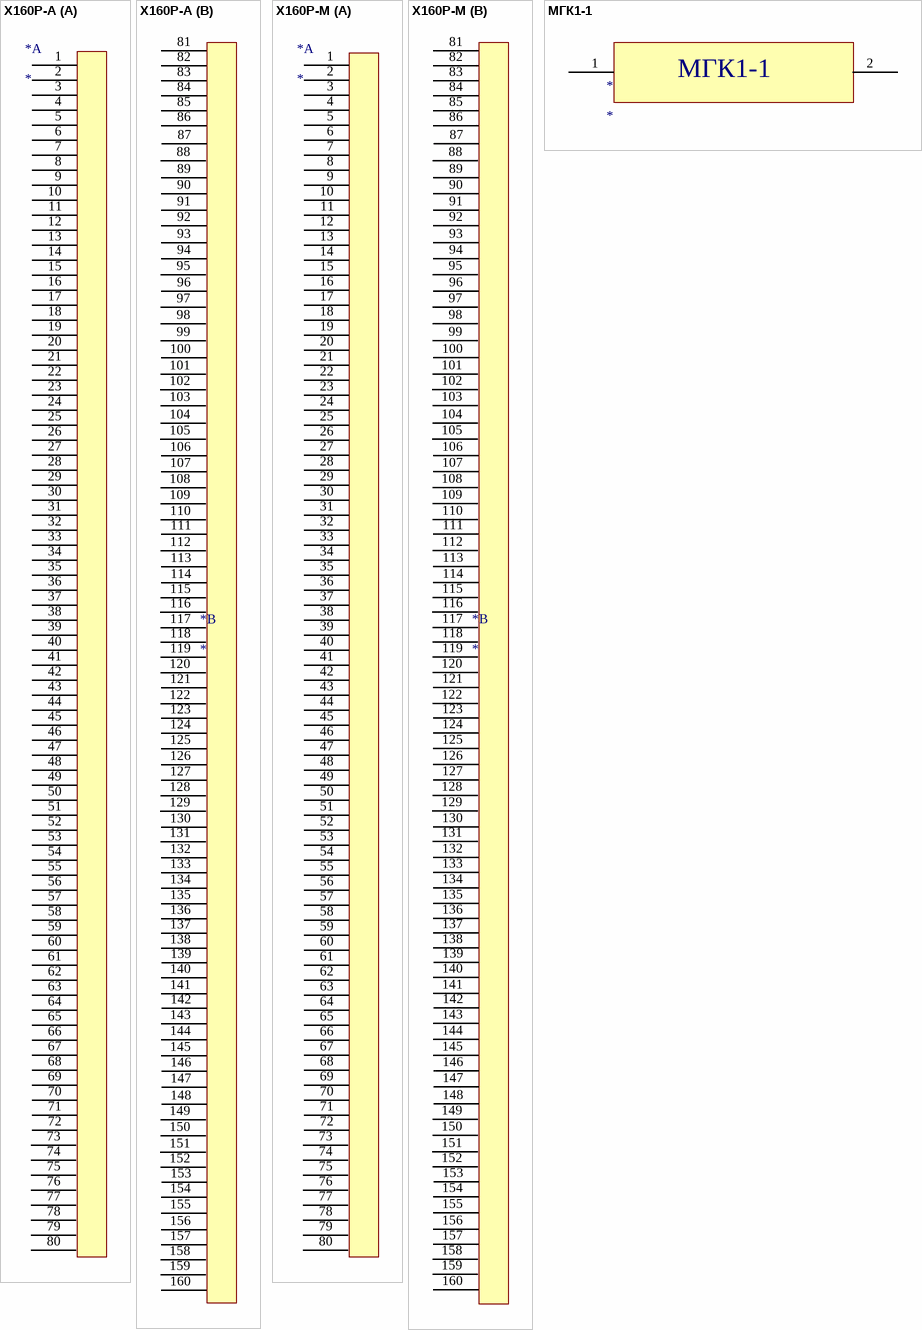
[diagram p14: symbols X160P-A to МГК1-1]

## X160P-A
designator *
footprint X160PIN-A (Tam Han Jac)
part A pins: 1, 2, 3, 4, 5, 6, 7, 8, 9, 10, 11, 12, 13, 14, 15, 16, 17, 18, 19, 20, 21, 22, 23, 24, 25, 26, 27, 28, 29, 30, 31, 32, 33, 34, 35, 36, 37, 38, 39, 40, 41, 42, 43, 44, 45, 46, 47, 48, 49, 50, 51, 52, 53, 54, 55, 56, 57, 58, 59, 60, 61, 62, 63, 64, 65, 66, 67, 68, 69, 70, 71, 72, 73, 74, 75, 76, 77, 78, 79, 80
part B pins: 81, 82, 83, 84, 85, 86, 87  , 88  , 89  , 90  , 91  , 92  , 93  , 94  , 95  , 96  , 97  , 98  , 99  , 100  , 101  , 102  , 103  , 104  , 105  , 106  , 107  , 108  , 109  , 110  , 111  , 112  , 113  , 114  , 115  , 116  , 117  , 118  , 119  , 120  , 121  , 122  , 123  , 124  , 125  , 126  , 127  , 128  , 129  , 130  , 131  , 132  , 133  , 134  , 135  , 136  , 137  , 138  , 139  , 140  , 141  , 142  , 143  , 144  , 145  , 146  , 147  , 148  , 149  , 150  , 151  , 152  , 153  , 154  , 155  , 156  , 157  , 158  , 159  , 160  

## X160P-M
designator *
footprint X160PIN-M (Tam M)
part A pins: 1, 2, 3, 4, 5, 6, 7, 8, 9, 10, 11, 12, 13, 14, 15, 16, 17, 18, 19, 20, 21, 22, 23, 24, 25, 26, 27, 28, 29, 30, 31, 32, 33, 34, 35, 36, 37, 38, 39, 40, 41, 42, 43, 44, 45, 46, 47, 48, 49, 50, 51, 52, 53, 54, 55, 56, 57, 58, 59, 60, 61, 62, 63, 64, 65, 66, 67, 68, 69, 70, 71, 72, 73, 74, 75, 76, 77, 78, 79, 80
part B pins: 81, 82, 83, 84, 85, 86, 87  , 88  , 89  , 90  , 91  , 92  , 93  , 94  , 95  , 96  , 97  , 98  , 99  , 100  , 101  , 102  , 103  , 104  , 105  , 106  , 107  , 108  , 109  , 110  , 111  , 112  , 113  , 114  , 115  , 116  , 117  , 118  , 119  , 120  , 121  , 122  , 123  , 124  , 125  , 126  , 127  , 128  , 129  , 130  , 131  , 132  , 133  , 134  , 135  , 136  , 137  , 138  , 139  , 140  , 141  , 142  , 143  , 144  , 145  , 146  , 147  , 148  , 149  , 150  , 151  , 152  , 153  , 154  , 155  , 156  , 157  , 158  , 159  , 160  

## МГК1-1
designator *
pins: 1, 2